# Altium integrated library TI Digital Signal Processor 32-Bit.IntLib: 121 symbols (part 6 of 13)
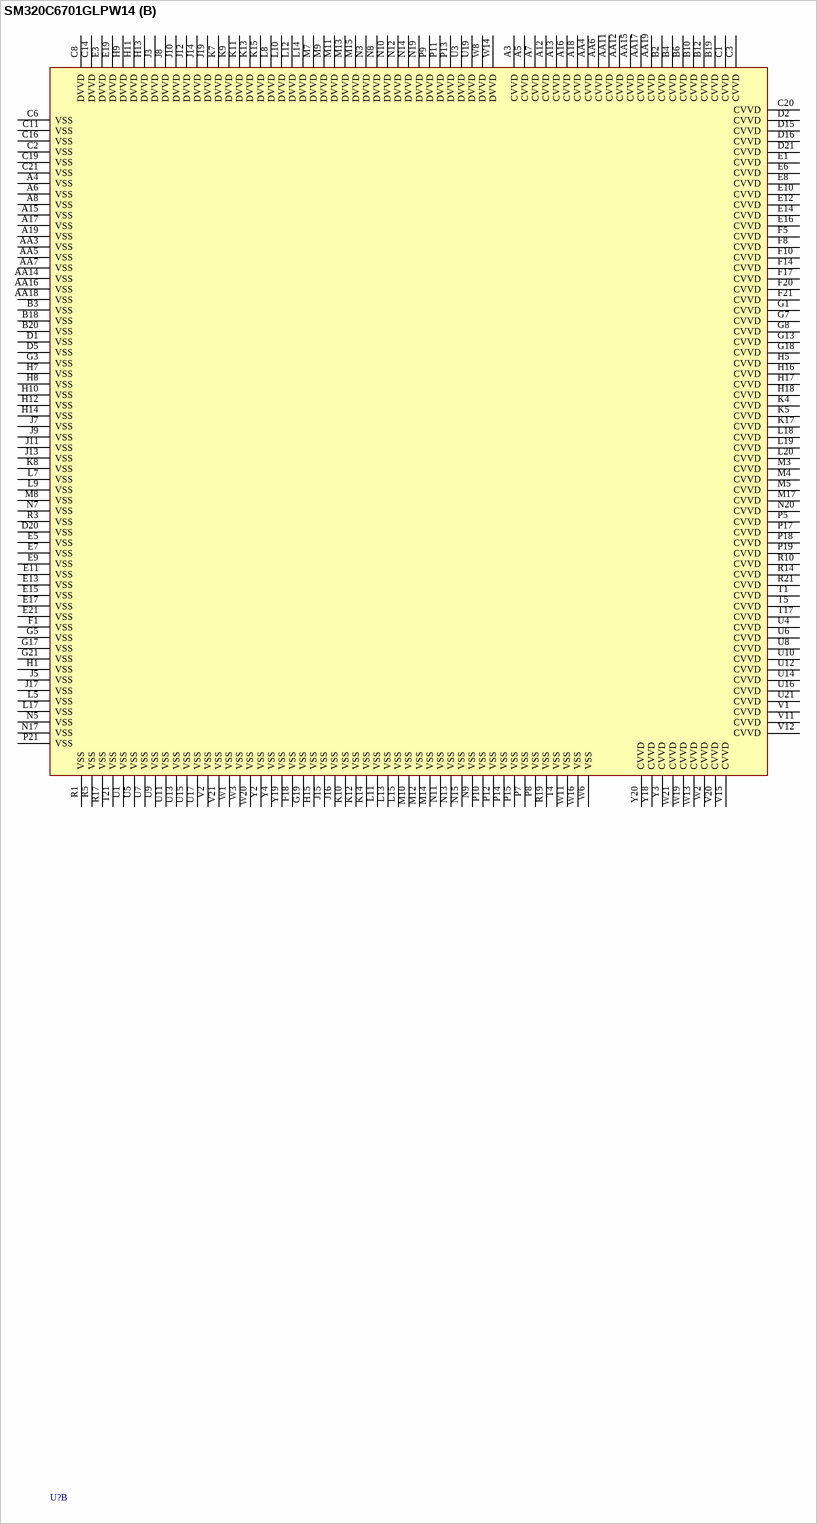
[diagram p135: symbol SM320C6701GLPW14]

## SM320C6701GLPW14
designator U?
Floating-Point, 1.9/3.3V DSP; Note: PLLV and PLLG are not part of external voltage supply or ground.; Published: 25-Jan-2001; LatestRevisionDate: 13-Apr-2006; LatestRevisionNote: IPC-7351 Footprint Added.; DatasheetVersion: Apr-2000; PackageVersion: Sep-1998; PackageReference: GLP429; Publisher: Altium Limited; PackageDescription: 429-Ball Ceramic Ball Grid Array 1.27 mm Pitch; ComponentLink1Description: Manufacturer Link; ComponentLink1URL: http://www.ti.com/; ComponentLink2Description: Datasheet; ComponentLink2URL: http://www-s.ti.com/sc/ds/smj320c6701.pdf
footprint GLP429 (BGA, 429-Leads, Body 27x27mm, Pitch 1.27mm)
3D model SM320C6701-GLP429 (429-Ball Ceramic Ball Grid Array 1.27 mm Pitch)
part A pins: A9 HD5 (io), A10 HD10 (io), A11 HD13 (io), A14 CLKIN (in), AA8 SSCLK (hiz), AA9 ED2 (io), AA10 ED6 (io), AA13 ED13 (io), B5 RSV8 (in), B7 HD1 (io), B8 HD4 (io), B9 HD8 (io), B11 HD14 (io), B13 RSV2 (in), B14 RSV3 (in), B15 ~{HOLDA} (out), B16 BOOTMODE4 (in), B17 CLKMODE1 (in), C4 ~{HDS}1 (in), C5 ~{HCS} (in), C7 HD0 (io), C9 HD6 (io), C10 HD9 (io), C12 PLLF, C13 PLLFREQ3 (in), C15 RSV5 (out), C17 CLKMODE0 (in), C18 BOOTMODE1 (in), D3 NC, D4 HR/~{W} (in), D6 NC, D7 RSV7 (in), D8 HD2 (io), D9 HD3 (io), D10 HD11 (io), D11 HD15 (io), D12 PLLV (power), D13 NC, D14 NC, D17 BOOTMODE0 (in), D18 NC, D19 PD (out), E2 DR1 (in), E4 HHWIL (in), E18 DMAC3 (out), E20 DMAC1 (out), F2 FSX1 (io), F3 FSR1 (io), F4 CLKS1 (in), F6 ~{HBE}0 (in), F7 RSV6 (in), F9 HD7 (io), F11 PLLFREQ1 (in), F12 NC, F13 RSV4 (in), F15 BOOTMODE2 (in), F16 RSV9 (out), F19 DMAC2 (out), G2 TOUT1 (hiz), G4 DX1 (hiz), G6 ~{HBE}1 (in), G9 HD12 (io), G10 PLLG (power), G11 PLLFREQ2 (in), G12 NC, G14 BOOTMODE3 (in), G15 NC, G16 DMAC0 (out), G20 LENDIAN (in), H2 ~{HINT} (hiz), H3 ~{HRDY} (out), H4 CLKR1 (io), H6 HCNTL0 (in), H19 NC, H20 NC, H21 NC, J1 EA18 (hiz), J2 EA19 (hiz), J4 CLKX1 (io), J6 HCNTL1 (in), J18 TINP0 (in), J20 ~{RESET} (in), J21 DR0 (in), K1 EA17 (hiz), K2 EA16 (hiz), K3 TINP1 (in), K6 ~{HDS}2 (in), K16 RSV1 (in), K18 CLKS0 (in), K19 TMS (in), K20 CLKX0 (io), K21 NMI (in), L1 EA14 (hiz), L2 EA15 (hiz), L3 EA20 (hiz), L4 EA21 (hiz), L6 ~{HAS} (in), L16 NC, L21 CLKR0 (io), M1 EA13 (hiz), M2 EA12 (hiz), M6 EA11 (hiz), M16 NC, M18 TOUT0 (hiz), M19 NC, M20 TCK (in), M21 DX0 (hiz), N1 EA9 (hiz), N2 EA8 (hiz), N4 EA10 (hiz), N6 EA7 (hiz), N16 FSX0 (io), N18 ~{TRST} (in), N21 RSV0 (in), P1 EA3 (hiz), P2 EA4 (hiz), P3 EA5 (hiz), P4 EA6 (hiz), P6 EA2 (hiz), P16 FSR0 (io), P20 EXT_INT6 (in), R2 ~{BE}0 (hiz), R4 ARDY (in), R6 ~{HOLD} (in), R7 ~{ARE} (hiz), R8 ~{BE}3 (hiz), R9 ED16 (io), R11 IACK (out), R12 TDO (hiz), R13 TDI (in), R15 EXT_INT5 (in), R16 EXT_INT7 (in), R18 EXT_INT4 (in), R20 EMU1 (io), T2 ~{BE}1 (hiz), T3 ~{BE}2 (hiz), T6 ~{CE}1 (hiz), T7 ~{AOE} (hiz), T8 ~{SDWE} (hiz), T9 SDCLK (hiz), T10 ED12 (io), T11 ED21 (io), T12 ED25 (io), T13 ED23 (io), T14 INUM1 (out), T15 ED29 (io), T16 INUM0 (out), T18 EMU0 (io), T19 INUM3 (out), T20 INUM2 (out), U2 ~{CE}0 (hiz), U18 ED31 (io), U20 ED30 (io), V3 ~{CE}2 (hiz), V4 NC, V5 ~{AWE} (hiz), V6 ~{SDRAS} (hiz), V7 SDA10 (hiz), V8 ~{SSADS} (hiz), V9 CLKOUT2 (out), V10 ED7 (io), V13 ED14 (io), V14 ED18 (io), V16 ED26 (io), V17 ED27 (io), V18 ED28 (io), V19 NC, W4 NC, W5 ~{SDCAS} (hiz), W7 ~{SSOE} (hiz), W9 ED0 (io), W10 ED4 (io), W12 ED10 (io), W15 ED19 (io), W17 ED24 (io), W18 NC, Y5 ~{CE}3 (hiz), Y6 CLKOUT1 (out), Y7 ~{SSWE} (hiz), Y8 ED1 (io), Y9 ED3 (io), Y10 ED5 (io), Y11 ED8 (io), Y12 ED9 (io), Y13 ED11 (io), Y14 ED15 (io), Y15 ED17 (io), Y16 ED20 (io), Y17 ED22 (io)
part B pins: A3 CVVD (power), A4 VSS (power), A5 CVVD (power), A6 VSS (power), A7 CVVD (power), A8 VSS (power), A12 CVVD (power), A13 CVVD (power), A15 VSS (power), A16 CVVD (power), A17 VSS (power), A18 CVVD (power), A19 VSS (power), AA3 VSS (power), AA4 CVVD (power), AA5 VSS (power), AA6 CVVD (power), AA7 VSS (power), AA11 CVVD (power), AA12 CVVD (power), AA14 VSS (power), AA15 CVVD (power), AA16 VSS (power), AA17 CVVD (power), AA18 VSS (power), AA19 CVVD (power), B2 CVVD (power), B3 VSS (power), B4 CVVD (power), B6 CVVD (power), B10 CVVD (power), B12 CVVD (power), B18 VSS (power), B19 CVVD (power), B20 VSS (power), C1 CVVD (power), C2 VSS (power), C3 CVVD (power), C6 VSS (power), C8 DVVD (power), C11 VSS (power), C14 DVVD (power), C16 VSS (power), C19 VSS (power), C20 CVVD (power), C21 VSS (power), D1 VSS (power), D2 CVVD (power), D5 VSS (power), D15 CVVD (power), D16 CVVD (power), D20 VSS (power), D21 CVVD (power), E1 CVVD (power), E3 DVVD (power), E5 VSS (power), E6 CVVD (power), E7 VSS (power), E8 CVVD (power), E9 VSS (power), E10 CVVD (power), E11 VSS (power), E12 CVVD (power), E13 VSS (power), E14 CVVD (power), E15 VSS (power), E16 CVVD (power), E17 VSS (power), E19 DVVD (power), E21 VSS (power), F1 VSS (power), F5 CVVD (power), F8 CVVD (power), F10 CVVD (power), F14 CVVD (power), F17 CVVD (power), F18 VSS (power), F20 CVVD (power), F21 CVVD (power), G1 CVVD (power), G3 VSS (power), G5 VSS (power), G7 CVVD (power), G8 CVVD (power), G13 CVVD (power), G17 VSS (power), G18 CVVD (power), G19 VSS (power), G21 VSS (power), H1 VSS (power), H5 CVVD (power), H7 VSS (power), H8 VSS (power), H9 DVVD (power), H10 VSS (power), H11 DVVD (power), H12 VSS (power), H13 DVVD (power), H14 VSS (power), H15 VSS (power), H16 CVVD (power), H17 CVVD (power), H18 CVVD (power), J3 DVVD (power), J5 VSS (power), J7 VSS (power), J8 DVVD (power), J9 VSS (power), J10 DVVD (power), J11 VSS (power), J12 DVVD (power), J13 VSS (power), J14 DVVD (power), J15 VSS (power), J16 VSS (power), J17 VSS (power), J19 DVVD (power), K4 CVVD (power), K5 CVVD (power), K7 DVVD (power), K8 VSS (power), K9 DVVD (power), K10 VSS (power), K11 DVVD (power), K12 VSS (power), K13 DVVD (power), K14 VSS (power), K15 DVVD (power), K17 CVVD (power), L5 VSS (power), L7 VSS (power), L8 DVVD (power), L9 VSS (power), L10 DVVD (power), L11 VSS (power), L12 DVVD (power), L13 VSS (power), L14 DVVD (power), L15 VSS (power), L17 VSS (power), L18 CVVD (power), L19 CVVD (power), L20 CVVD (power), M3 CVVD (power), M4 CVVD (power), M5 CVVD (power), M7 DVVD (power), M8 VSS (power), M9 DVVD (power), M10 VSS (power), M11 DVVD (power), M12 VSS (power), M13 DVVD (power), M14 VSS (power), M15 DVVD (power), M17 CVVD (power), N3 DVVD (power), N5 VSS (power), N7 VSS (power), N8 DVVD (power), N9 VSS (power), N10 DVVD (power), N11 VSS (power), N12 DVVD (power), N13 VSS (power), N14 DVVD (power), N15 VSS (power), N17 VSS (power), N19 DVVD (power), N20 CVVD (power), P5 CVVD (power), P7 VSS (power), P8 VSS (power), P9 DVVD (power), P10 VSS (power), P11 DVVD (power), P12 VSS (power), P13 DVVD (power), P14 VSS (power), P15 VSS (power), P17 CVVD (power), P18 CVVD (power), P19 CVVD (power), P21 VSS (power), R1 VSS (power), R3 VSS (power), R5 VSS (power), R10 CVVD (power), R14 CVVD (power), R17 VSS (power), R19 VSS (power), R21 CVVD (power), T1 CVVD (power), T4 VSS (power), T5 CVVD (power), T17 CVVD (power), T21 VSS (power), U1 VSS (power), U3 DVVD (power), U4 CVVD (power), U5 VSS (power), U6 CVVD (power), U7 VSS (power), U8 CVVD (power), U9 VSS (power), U10 CVVD (power), U11 VSS (power), U12 CVVD (power), U13 VSS (power), U14 CVVD (power), U15 VSS (power), U16 CVVD (power), U17 VSS (power), U19 DVVD (power), U21 CVVD (power), V1 CVVD (power), V2 VSS (power), V11 CVVD (power), V12 CVVD (power), V15 CVVD (power), V20 CVVD (power), V21 VSS (power), W1 VSS (power), W2 CVVD (power), W3 VSS (power), W6 VSS (power), W8 DVVD (power), W11 VSS (power), W13 CVVD (power), W14 DVVD (power), W16 VSS (power), W19 CVVD (power), W20 VSS (power), W21 CVVD (power), Y2 VSS (power), Y3 CVVD (power), Y4 VSS (power), Y18 CVVD (power), Y19 VSS (power), Y20 CVVD (power)

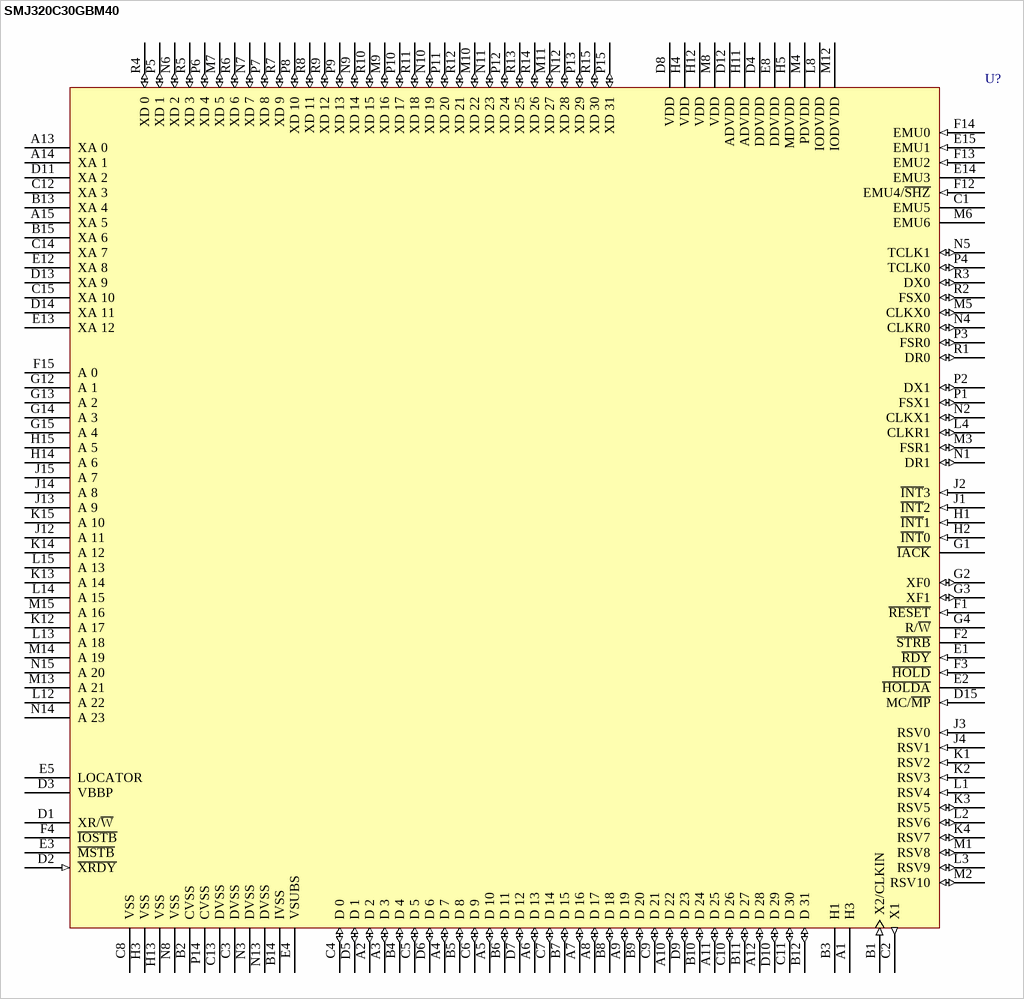
[diagram p61: symbol SMJ320C30GBM40]

## SMJ320C30GBM40
designator U?
Floating DSP; Published: 25-Jan-2001; LatestRevisionDate: 08-Jul-2005; LatestRevisionNote: Stylized 3D Model Added.; DatasheetVersion: Feb-1999; PackageVersion: Oct-1995; PackageReference: GB181; Publisher: Altium Limited; PackageDescription: 181-Pin Pin Grid Array 2.54 mm Pitch; ComponentLink1Description: Manufacturer Link; ComponentLink1URL: http://www.ti.com/; ComponentLink2Description: Datasheet; ComponentLink2URL: http://www-s.ti.com/sc/ds/smj320c30.pdf
footprint GB181 (PGA, 181-Leads, Body 39x39mm, Pitch 2.54mm)
3D model SMJ320C30-GB181 (181-Pin Pin Grid Array 2.54 mm Pitch)
pins: A1 H3 (hiz), A2 D 2 (io), A3 D 3 (io), A4 D 7 (io), A5 D 10 (io), A6 D 13 (io), A7 D 16 (io), A8 D 17 (io), A9 D 19 (io), A10 D 22 (io), A11 D 25 (io), A12 D 28 (io), A13 XA 0 (hiz), A14 XA 1 (hiz), A15 XA 5 (hiz), B1 X2/CLKIN (in), B2 CVSS (power), B3 H1 (hiz), B4 D 4 (io), B5 D 8 (io), B6 D 11 (io), B7 D 15 (io), B8 D 18 (io), B9 D 20 (io), B10 D 24 (io), B11 D 27 (io), B12 D 31 (io), B13 XA 4 (hiz), B14 IVSS (power), B15 XA 6 (hiz), C1 EMU5, C2 X1 (out), C3 DVSS (power), C4 D 0 (io), C5 D 5 (io), C6 D 9 (io), C7 D 14 (io), C8 VSS (power), C9 D 21 (io), C10 D 26 (io), C11 D 30 (io), C12 XA 3 (hiz), C13 DVSS (power), C14 XA 7 (hiz), C15 XA 10 (hiz), D1 XR/~{W} (hiz), D2 ~{XRDY} (in), D3 VBBP, D4 DDVDD (power), D5 D 1 (io), D6 D 6 (io), D7 D 12 (io), D8 VDD (power), D9 D 23 (io), D10 D 29 (io), D11 XA 2 (hiz), D12 ADVDD (power), D13 XA 9 (hiz), D14 XA 11 (hiz), D15 MC/~{MP} (in), E1 ~{RDY} (in), E2 ~{HOLDA} (hiz), E3 ~{MSTB} (hiz), E4 VSUBS (power), E5 LOCATOR, E8 DDVDD (power), E12 XA 8 (hiz), E13 XA 12 (hiz), E14 EMU3 (hiz), E15 EMU1 (in), F1 ~{RESET} (in), F2 ~{STRB} (hiz), F3 ~{HOLD} (in), F4 ~{IOSTB} (hiz), F12 EMU4/~{SHZ} (in), F13 EMU2 (in), F14 EMU0 (in), F15 A 0 (hiz), G1 ~{IACK} (hiz), G2 XF0 (io), G3 XF1 (io), G4 R/~{W} (hiz), G12 A 1 (hiz), G13 A 2 (hiz), G14 A 3 (hiz), G15 A 4 (hiz), H1 ~{INT}1 (in), H2 ~{INT}0 (in), H3 VSS (power), H4 VDD (power), H5 MDVDD (power), H11 ADVDD (power), H12 VDD (power), H13 VSS (power), H14 A 6 (hiz), H15 A 5 (hiz), J1 ~{INT}2 (in), J2 ~{INT}3 (in), J3 RSV0 (in), J4 RSV1 (in), J12 A 11 (hiz), J13 A 9 (hiz), J14 A 8 (hiz), J15 A 7 (hiz), K1 RSV2 (in), K2 RSV3 (in), K3 RSV5 (io), K4 RSV7 (io), K12 A 17 (hiz), K13 A 14 (hiz), K14 A 12 (hiz), K15 A 10 (hiz), L1 RSV4 (in), L2 RSV6 (io), L3 RSV9 (io), L4 CLKR1 (io), L8 IODVDD (power), L12 A 22 (hiz), L13 A 18 (hiz), L14 A 15 (hiz), L15 A 13 (hiz), M1 RSV8 (io), M2 RSV10 (io), M3 FSR1 (io), M4 PDVDD (power), M5 CLKX0 (io), M6 EMU6, M7 XD 5 (io), M8 VDD (power), M9 XD 16 (io), M10 XD 22 (io), M11 XD 27 (io), M12 IODVDD (power), M13 A 21 (hiz), M14 A 19 (hiz), M15 A 16 (hiz), N1 DR1 (io), N2 CLKX1 (io), N3 DVSS (power), N4 CLKR0 (io), N5 TCLK1 (io), N6 XD 2 (io), N7 XD 7 (io), N8 VSS (power), N9 XD 14 (io), N10 XD 19 (io), N11 XD 23 (io), N12 XD 28 (io), N13 DVSS (power), N14 A 23 (hiz), N15 A 20 (hiz), P1 FSX1 (io), P2 DX1 (io), P3 FSR0 (io), P4 TCLK0 (io), P5 XD 1 (io), P6 XD 4 (io), P7 XD 8 (io), P8 XD 10 (io), P9 XD 13 (io), P10 XD 17 (io), P11 XD 20 (io), P12 XD 24 (io), P13 XD 29 (io), P14 CVSS (power), P15 XD 31 (io), R1 DR0 (io), R2 FSX0 (io), R3 DX0 (io), R4 XD 0 (io), R5 XD 3 (io), R6 XD 6 (io), R7 XD 9 (io), R8 XD 11 (io), R9 XD 12 (io), R10 XD 15 (io), R11 XD 18 (io), R12 XD 21 (io), R13 XD 25 (io), R14 XD 26 (io), R15 XD 30 (io)

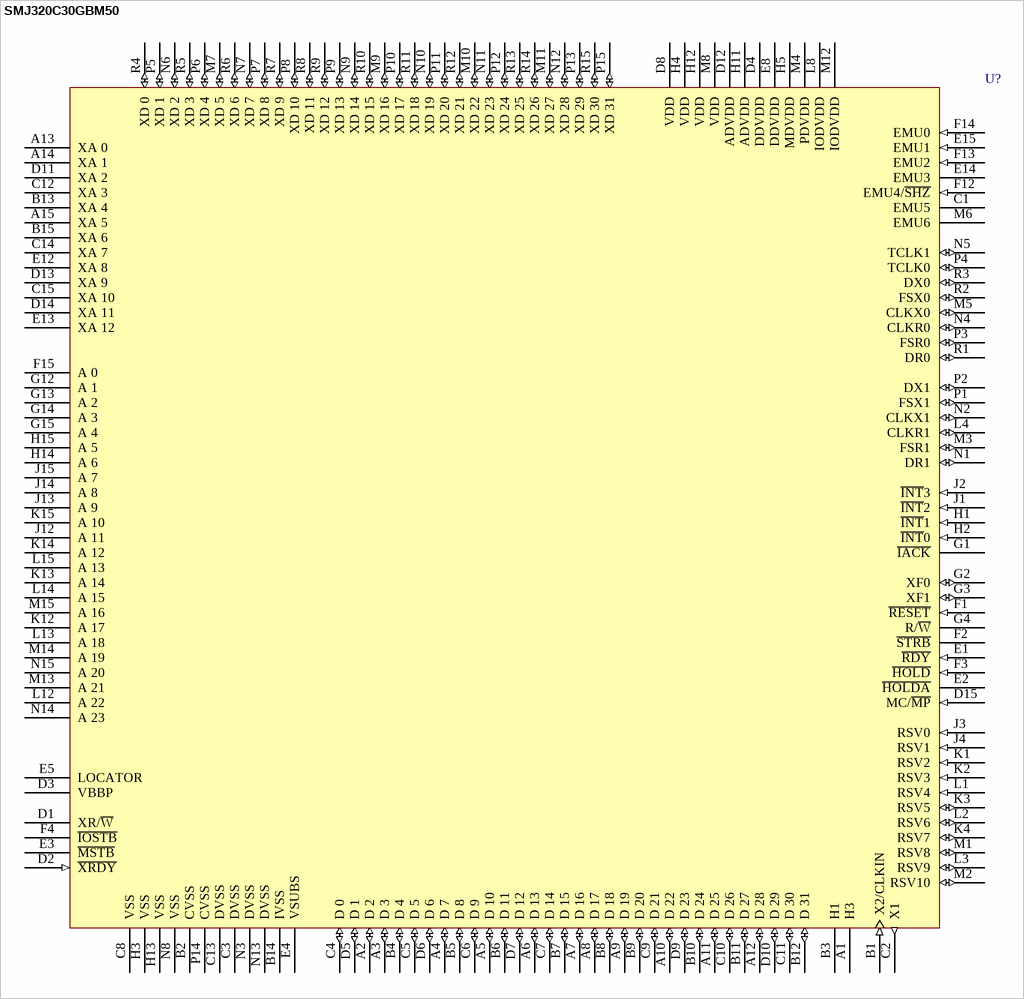
[diagram p62: symbol SMJ320C30GBM50]

## SMJ320C30GBM50
designator U?
Floating DSP; Published: 25-Jan-2001; LatestRevisionDate: 08-Jul-2005; LatestRevisionNote: Stylized 3D Model Added.; DatasheetVersion: Feb-1999; PackageVersion: Oct-1995; PackageReference: GB181; Publisher: Altium Limited; PackageDescription: 181-Pin Pin Grid Array 2.54 mm Pitch; ComponentLink1Description: Manufacturer Link; ComponentLink1URL: http://www.ti.com/; ComponentLink2Description: Datasheet; ComponentLink2URL: http://www-s.ti.com/sc/ds/smj320c30.pdf
footprint GB181 (PGA, 181-Leads, Body 39x39mm, Pitch 2.54mm)
3D model SMJ320C30-GB181 (181-Pin Pin Grid Array 2.54 mm Pitch)
pins: A1 H3 (hiz), A2 D 2 (io), A3 D 3 (io), A4 D 7 (io), A5 D 10 (io), A6 D 13 (io), A7 D 16 (io), A8 D 17 (io), A9 D 19 (io), A10 D 22 (io), A11 D 25 (io), A12 D 28 (io), A13 XA 0 (hiz), A14 XA 1 (hiz), A15 XA 5 (hiz), B1 X2/CLKIN (in), B2 CVSS (power), B3 H1 (hiz), B4 D 4 (io), B5 D 8 (io), B6 D 11 (io), B7 D 15 (io), B8 D 18 (io), B9 D 20 (io), B10 D 24 (io), B11 D 27 (io), B12 D 31 (io), B13 XA 4 (hiz), B14 IVSS (power), B15 XA 6 (hiz), C1 EMU5, C2 X1 (out), C3 DVSS (power), C4 D 0 (io), C5 D 5 (io), C6 D 9 (io), C7 D 14 (io), C8 VSS (power), C9 D 21 (io), C10 D 26 (io), C11 D 30 (io), C12 XA 3 (hiz), C13 DVSS (power), C14 XA 7 (hiz), C15 XA 10 (hiz), D1 XR/~{W} (hiz), D2 ~{XRDY} (in), D3 VBBP, D4 DDVDD (power), D5 D 1 (io), D6 D 6 (io), D7 D 12 (io), D8 VDD (power), D9 D 23 (io), D10 D 29 (io), D11 XA 2 (hiz), D12 ADVDD (power), D13 XA 9 (hiz), D14 XA 11 (hiz), D15 MC/~{MP} (in), E1 ~{RDY} (in), E2 ~{HOLDA} (hiz), E3 ~{MSTB} (hiz), E4 VSUBS (power), E5 LOCATOR, E8 DDVDD (power), E12 XA 8 (hiz), E13 XA 12 (hiz), E14 EMU3 (hiz), E15 EMU1 (in), F1 ~{RESET} (in), F2 ~{STRB} (hiz), F3 ~{HOLD} (in), F4 ~{IOSTB} (hiz), F12 EMU4/~{SHZ} (in), F13 EMU2 (in), F14 EMU0 (in), F15 A 0 (hiz), G1 ~{IACK} (hiz), G2 XF0 (io), G3 XF1 (io), G4 R/~{W} (hiz), G12 A 1 (hiz), G13 A 2 (hiz), G14 A 3 (hiz), G15 A 4 (hiz), H1 ~{INT}1 (in), H2 ~{INT}0 (in), H3 VSS (power), H4 VDD (power), H5 MDVDD (power), H11 ADVDD (power), H12 VDD (power), H13 VSS (power), H14 A 6 (hiz), H15 A 5 (hiz), J1 ~{INT}2 (in), J2 ~{INT}3 (in), J3 RSV0 (in), J4 RSV1 (in), J12 A 11 (hiz), J13 A 9 (hiz), J14 A 8 (hiz), J15 A 7 (hiz), K1 RSV2 (in), K2 RSV3 (in), K3 RSV5 (io), K4 RSV7 (io), K12 A 17 (hiz), K13 A 14 (hiz), K14 A 12 (hiz), K15 A 10 (hiz), L1 RSV4 (in), L2 RSV6 (io), L3 RSV9 (io), L4 CLKR1 (io), L8 IODVDD (power), L12 A 22 (hiz), L13 A 18 (hiz), L14 A 15 (hiz), L15 A 13 (hiz), M1 RSV8 (io), M2 RSV10 (io), M3 FSR1 (io), M4 PDVDD (power), M5 CLKX0 (io), M6 EMU6, M7 XD 5 (io), M8 VDD (power), M9 XD 16 (io), M10 XD 22 (io), M11 XD 27 (io), M12 IODVDD (power), M13 A 21 (hiz), M14 A 19 (hiz), M15 A 16 (hiz), N1 DR1 (io), N2 CLKX1 (io), N3 DVSS (power), N4 CLKR0 (io), N5 TCLK1 (io), N6 XD 2 (io), N7 XD 7 (io), N8 VSS (power), N9 XD 14 (io), N10 XD 19 (io), N11 XD 23 (io), N12 XD 28 (io), N13 DVSS (power), N14 A 23 (hiz), N15 A 20 (hiz), P1 FSX1 (io), P2 DX1 (io), P3 FSR0 (io), P4 TCLK0 (io), P5 XD 1 (io), P6 XD 4 (io), P7 XD 8 (io), P8 XD 10 (io), P9 XD 13 (io), P10 XD 17 (io), P11 XD 20 (io), P12 XD 24 (io), P13 XD 29 (io), P14 CVSS (power), P15 XD 31 (io), R1 DR0 (io), R2 FSX0 (io), R3 DX0 (io), R4 XD 0 (io), R5 XD 3 (io), R6 XD 6 (io), R7 XD 9 (io), R8 XD 11 (io), R9 XD 12 (io), R10 XD 15 (io), R11 XD 18 (io), R12 XD 21 (io), R13 XD 25 (io), R14 XD 26 (io), R15 XD 30 (io)

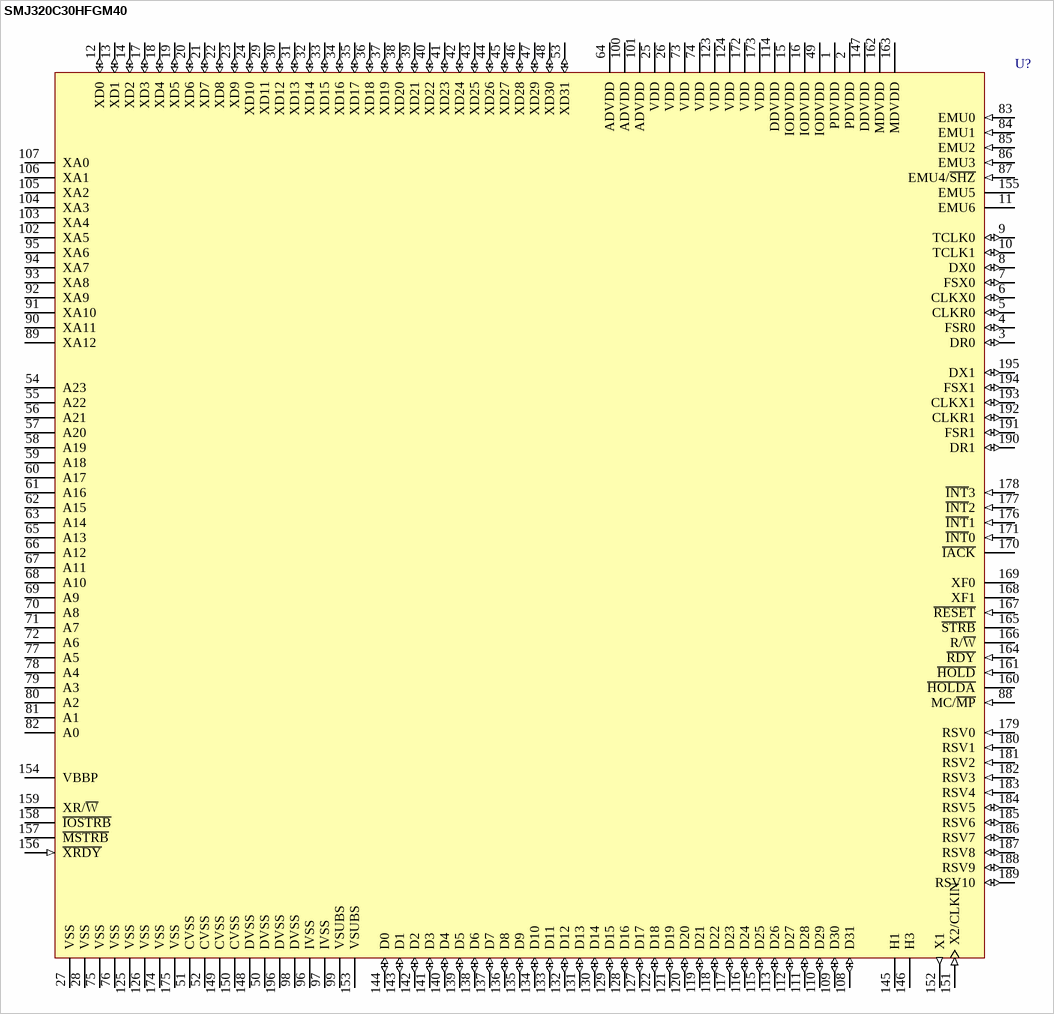
[diagram p63: symbol SMJ320C30HFGM40]

## SMJ320C30HFGM40
designator U?
Floating DSP; Published: 25-Jan-2001; LatestRevisionDate: 13-Apr-2006; LatestRevisionNote: IPC-7351 Footprint Added.; DatasheetVersion: Feb-1999; PackageVersion: Jun-1999; PackageReference: HFG196; Publisher: Altium Limited; PackageDescription: 196-Pin Ceramic Quad Flat Pack 0.635 mm Pitch; ComponentLink1Description: Manufacturer Link; ComponentLink1URL: http://www.ti.com/; ComponentLink2Description: Datasheet; ComponentLink2URL: http://www-s.ti.com/sc/ds/smj320c30.pdf
footprint HFG196_N (CQFP, 196-Leads, Body 34x34mm; Pitch 0.635mm, Gullwing Leadform, IPC Medium Density)
footprint HFG196_L (CQFP, 196-Leads, Body 34x34mm; Pitch 0.635mm, Gullwing Leadform, IPC High Density)
footprint HFG196_M (CQFP, 196-Leads, Body 34x34mm; Pitch 0.635mm, Gullwing Leadform, IPC Low Density)
3D model SMJ320C30-HFG196 (196-Pin Ceramic Quad Flat Pack 0.635 mm Pitch)
pins: 1 PDVDD (power), 2 PDVDD (power), 3 DR0 (io), 4 FSR0 (io), 5 CLKR0 (io), 6 CLKX0 (io), 7 FSX0 (io), 8 DX0 (io), 9 TCLK0 (io), 10 TCLK1 (io), 11 EMU6, 12 XD0 (io), 13 XD1 (io), 14 XD2 (io), 15 IODVDD (power), 16 IODVDD (power), 17 XD3 (io), 18 XD4 (io), 19 XD5 (io), 20 XD6 (io), 21 XD7 (io), 22 XD8 (io), 23 XD9 (io), 24 XD10 (io), 25 VDD (power), 26 VDD (power), 27 VSS (power), 28 VSS (power), 29 XD11 (io), 30 XD12 (io), 31 XD13 (io), 32 XD14 (io), 33 XD15 (io), 34 XD16 (io), 35 XD17 (io), 36 XD18 (io), 37 XD19 (io), 38 XD20 (io), 39 XD21 (io), 40 XD22 (io), 41 XD23 (io), 42 XD24 (io), 43 XD25 (io), 44 XD26 (io), 45 XD27 (io), 46 XD28 (io), 47 XD29 (io), 48 XD30 (io), 49 IODVDD (power), 50 DVSS (power), 51 CVSS (power), 52 CVSS (power), 53 XD31 (io), 54 A23 (hiz), 55 A22 (hiz), 56 A21 (hiz), 57 A20 (hiz), 58 A19 (hiz), 59 A18 (hiz), 60 A17 (hiz), 61 A16 (hiz), 62 A15 (hiz), 63 A14 (hiz), 64 ADVDD (power), 65 A13 (hiz), 66 A12 (hiz), 67 A11 (hiz), 68 A10 (hiz), 69 A9 (hiz), 70 A8 (hiz), 71 A7 (hiz), 72 A6 (hiz), 73 VDD (power), 74 VDD (power), 75 VSS (power), 76 VSS (power), 77 A5 (hiz), 78 A4 (hiz), 79 A3 (hiz), 80 A2 (hiz), 81 A1 (hiz), 82 A0 (hiz), 83 EMU0 (in), 84 EMU1 (in), 85 EMU2 (in), 86 EMU3 (in), 87 EMU4/~{SHZ} (in), 88 MC/~{MP} (in), 89 XA12 (hiz), 90 XA11 (hiz), 91 XA10 (hiz), 92 XA9 (hiz), 93 XA8 (hiz), 94 XA7 (hiz), 95 XA6 (hiz), 96 IVSS (power), 97 IVSS (power), 98 DVSS (power), 99 VSUBS (power), 100 ADVDD (power), 101 ADVDD (power), 102 XA5 (hiz), 103 XA4 (hiz), 104 XA3 (hiz), 105 XA2 (hiz), 106 XA1 (hiz), 107 XA0 (hiz), 108 D31 (io), 109 D30 (io), 110 D29 (io), 111 D28 (io), 112 D27 (io), 113 D26 (io), 114 DDVDD (power), 115 D25 (io), 116 D24 (io), 117 D23 (io), 118 D22 (io), 119 D21 (io), 120 D20 (io), 121 D19 (io), 122 D18 (io), 123 VDD (power), 124 VDD (power), 125 VSS (power), 126 VSS (power), 127 D17 (io), 128 D16 (io), 129 D15 (io), 130 D14 (io), 131 D13 (io), 132 D12 (io), 133 D11 (io), 134 D10 (io), 135 D9 (io), 136 D8 (io), 137 D7 (io), 138 D6 (io), 139 D5 (io), 140 D4 (io), 141 D3 (io), 142 D2 (io), 143 D1 (io), 144 D0 (io), 145 H1 (hiz), 146 H3 (hiz), 147 DDVDD (power), 148 DVSS (power), 149 CVSS (power), 150 CVSS (power), 151 X2/CLKIN (in), 152 X1 (out), 153 VSUBS (power), 154 VBBP, 155 EMU5, 156 ~{XRDY} (in), 157 ~{MSTRB} (hiz), 158 ~{IOSTRB} (hiz), 159 XR/~{W} (hiz), 160 ~{HOLDA} (hiz), 161 ~{HOLD} (in), 162 MDVDD (power), 163 MDVDD (power), 164 ~{RDY} (in), 165 ~{STRB} (hiz), 166 R/~{W} (hiz), 167 ~{RESET} (in), 168 XF1 (hiz), 169 XF0 (hiz), 170 ~{IACK} (hiz), 171 ~{INT}0 (in), 172 VDD (power), 173 VDD (power), 174 VSS (power), 175 VSS (power), 176 ~{INT}1 (in), 177 ~{INT}2 (in), 178 ~{INT}3 (in), 179 RSV0 (in), 180 RSV1 (in), 181 RSV2 (in), 182 RSV3 (in), 183 RSV4 (in), 184 RSV5 (io), 185 RSV6 (io), 186 RSV7 (io), 187 RSV8 (io), 188 RSV9 (io), 189 RSV10 (io), 190 DR1 (io), 191 FSR1 (io), 192 CLKR1 (io), 193 CLKX1 (io), 194 FSX1 (io), 195 DX1 (io), 196 DVSS (power)

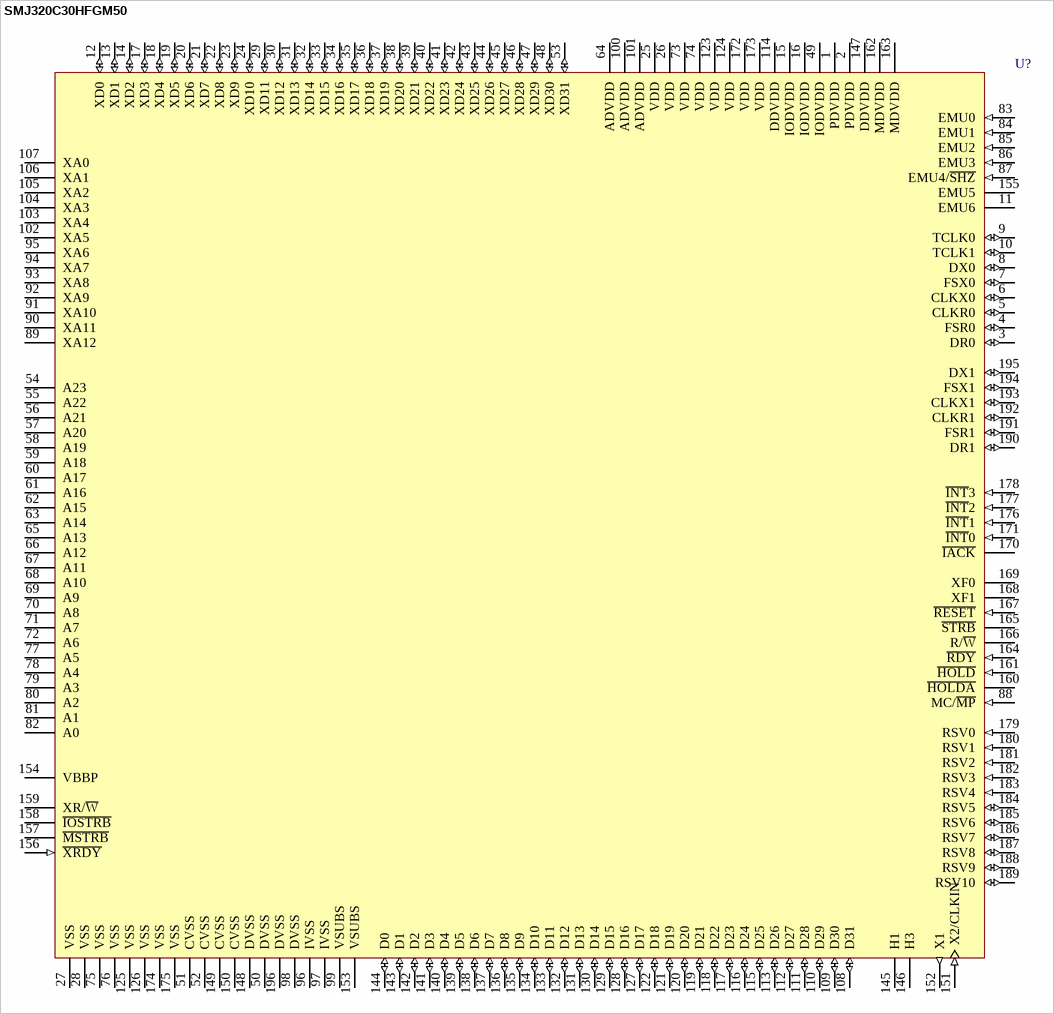
[diagram p64: symbol SMJ320C30HFGM50]

## SMJ320C30HFGM50
designator U?
Floating DSP; Published: 25-Jan-2001; LatestRevisionDate: 13-Apr-2006; LatestRevisionNote: IPC-7351 Footprint Added.; DatasheetVersion: Feb-1999; PackageVersion: Jun-1999; PackageReference: HFG196; Publisher: Altium Limited; PackageDescription: 196-Pin Ceramic Quad Flat Pack 0.635 mm Pitch; ComponentLink1Description: Manufacturer Link; ComponentLink1URL: http://www.ti.com/; ComponentLink2Description: Datasheet; ComponentLink2URL: http://www-s.ti.com/sc/ds/smj320c30.pdf
footprint HFG196_N (CQFP, 196-Leads, Body 34x34mm; Pitch 0.635mm, Gullwing Leadform, IPC Medium Density)
footprint HFG196_L (CQFP, 196-Leads, Body 34x34mm; Pitch 0.635mm, Gullwing Leadform, IPC High Density)
footprint HFG196_M (CQFP, 196-Leads, Body 34x34mm; Pitch 0.635mm, Gullwing Leadform, IPC Low Density)
3D model SMJ320C30-HFG196 (196-Pin Ceramic Quad Flat Pack 0.635 mm Pitch)
pins: 1 PDVDD (power), 2 PDVDD (power), 3 DR0 (io), 4 FSR0 (io), 5 CLKR0 (io), 6 CLKX0 (io), 7 FSX0 (io), 8 DX0 (io), 9 TCLK0 (io), 10 TCLK1 (io), 11 EMU6, 12 XD0 (io), 13 XD1 (io), 14 XD2 (io), 15 IODVDD (power), 16 IODVDD (power), 17 XD3 (io), 18 XD4 (io), 19 XD5 (io), 20 XD6 (io), 21 XD7 (io), 22 XD8 (io), 23 XD9 (io), 24 XD10 (io), 25 VDD (power), 26 VDD (power), 27 VSS (power), 28 VSS (power), 29 XD11 (io), 30 XD12 (io), 31 XD13 (io), 32 XD14 (io), 33 XD15 (io), 34 XD16 (io), 35 XD17 (io), 36 XD18 (io), 37 XD19 (io), 38 XD20 (io), 39 XD21 (io), 40 XD22 (io), 41 XD23 (io), 42 XD24 (io), 43 XD25 (io), 44 XD26 (io), 45 XD27 (io), 46 XD28 (io), 47 XD29 (io), 48 XD30 (io), 49 IODVDD (power), 50 DVSS (power), 51 CVSS (power), 52 CVSS (power), 53 XD31 (io), 54 A23 (hiz), 55 A22 (hiz), 56 A21 (hiz), 57 A20 (hiz), 58 A19 (hiz), 59 A18 (hiz), 60 A17 (hiz), 61 A16 (hiz), 62 A15 (hiz), 63 A14 (hiz), 64 ADVDD (power), 65 A13 (hiz), 66 A12 (hiz), 67 A11 (hiz), 68 A10 (hiz), 69 A9 (hiz), 70 A8 (hiz), 71 A7 (hiz), 72 A6 (hiz), 73 VDD (power), 74 VDD (power), 75 VSS (power), 76 VSS (power), 77 A5 (hiz), 78 A4 (hiz), 79 A3 (hiz), 80 A2 (hiz), 81 A1 (hiz), 82 A0 (hiz), 83 EMU0 (in), 84 EMU1 (in), 85 EMU2 (in), 86 EMU3 (in), 87 EMU4/~{SHZ} (in), 88 MC/~{MP} (in), 89 XA12 (hiz), 90 XA11 (hiz), 91 XA10 (hiz), 92 XA9 (hiz), 93 XA8 (hiz), 94 XA7 (hiz), 95 XA6 (hiz), 96 IVSS (power), 97 IVSS (power), 98 DVSS (power), 99 VSUBS (power), 100 ADVDD (power), 101 ADVDD (power), 102 XA5 (hiz), 103 XA4 (hiz), 104 XA3 (hiz), 105 XA2 (hiz), 106 XA1 (hiz), 107 XA0 (hiz), 108 D31 (io), 109 D30 (io), 110 D29 (io), 111 D28 (io), 112 D27 (io), 113 D26 (io), 114 DDVDD (power), 115 D25 (io), 116 D24 (io), 117 D23 (io), 118 D22 (io), 119 D21 (io), 120 D20 (io), 121 D19 (io), 122 D18 (io), 123 VDD (power), 124 VDD (power), 125 VSS (power), 126 VSS (power), 127 D17 (io), 128 D16 (io), 129 D15 (io), 130 D14 (io), 131 D13 (io), 132 D12 (io), 133 D11 (io), 134 D10 (io), 135 D9 (io), 136 D8 (io), 137 D7 (io), 138 D6 (io), 139 D5 (io), 140 D4 (io), 141 D3 (io), 142 D2 (io), 143 D1 (io), 144 D0 (io), 145 H1 (hiz), 146 H3 (hiz), 147 DDVDD (power), 148 DVSS (power), 149 CVSS (power), 150 CVSS (power), 151 X2/CLKIN (in), 152 X1 (out), 153 VSUBS (power), 154 VBBP, 155 EMU5, 156 ~{XRDY} (in), 157 ~{MSTRB} (hiz), 158 ~{IOSTRB} (hiz), 159 XR/~{W} (hiz), 160 ~{HOLDA} (hiz), 161 ~{HOLD} (in), 162 MDVDD (power), 163 MDVDD (power), 164 ~{RDY} (in), 165 ~{STRB} (hiz), 166 R/~{W} (hiz), 167 ~{RESET} (in), 168 XF1 (hiz), 169 XF0 (hiz), 170 ~{IACK} (hiz), 171 ~{INT}0 (in), 172 VDD (power), 173 VDD (power), 174 VSS (power), 175 VSS (power), 176 ~{INT}1 (in), 177 ~{INT}2 (in), 178 ~{INT}3 (in), 179 RSV0 (in), 180 RSV1 (in), 181 RSV2 (in), 182 RSV3 (in), 183 RSV4 (in), 184 RSV5 (io), 185 RSV6 (io), 186 RSV7 (io), 187 RSV8 (io), 188 RSV9 (io), 189 RSV10 (io), 190 DR1 (io), 191 FSR1 (io), 192 CLKR1 (io), 193 CLKX1 (io), 194 FSX1 (io), 195 DX1 (io), 196 DVSS (power)

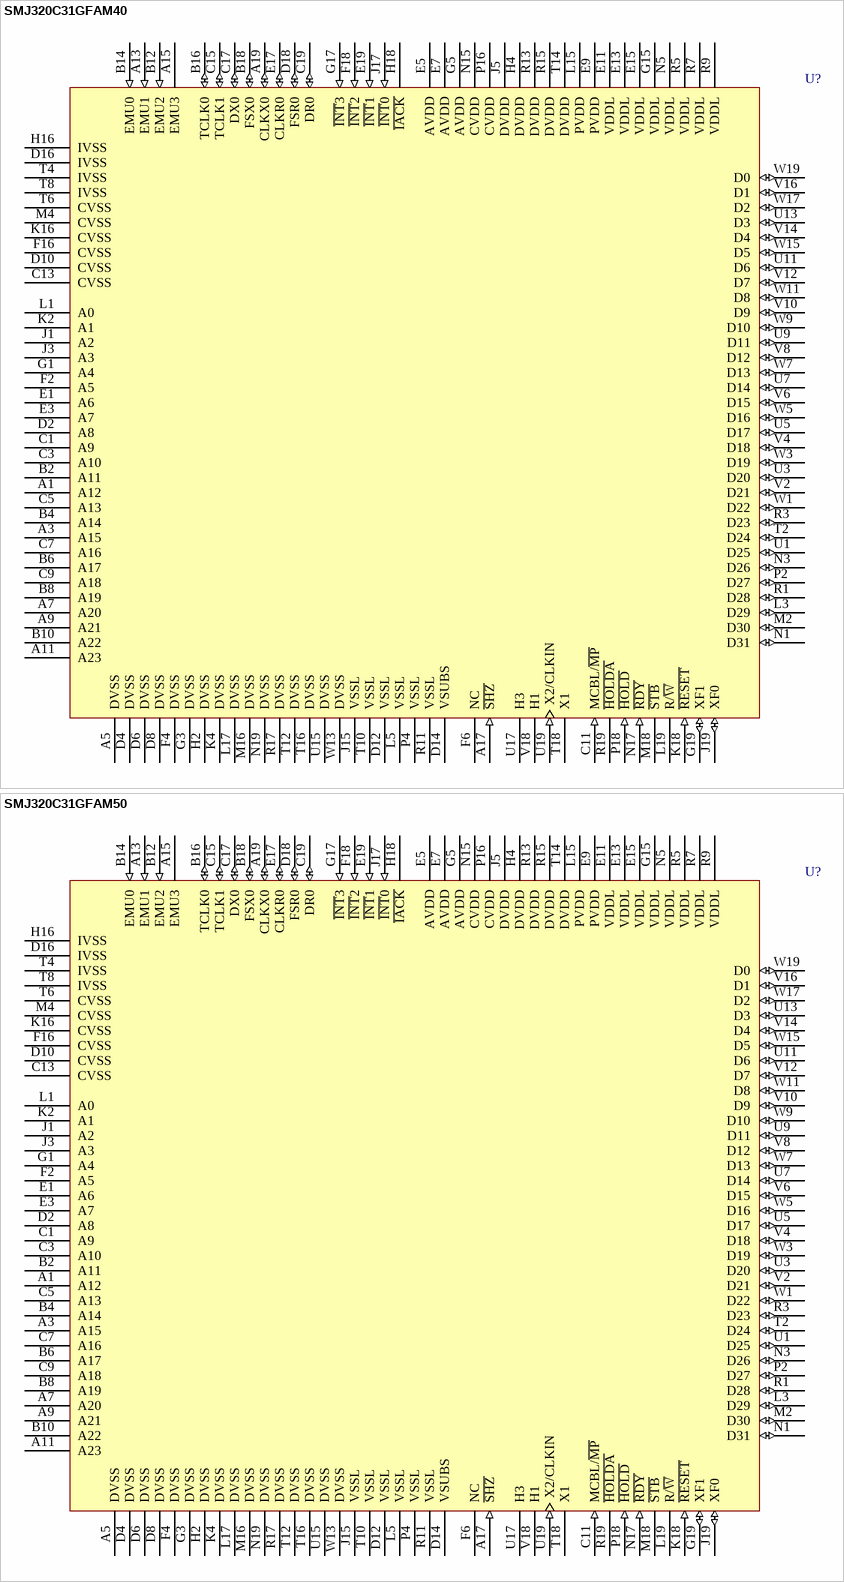
[diagram p65: symbols SMJ320C31GFAM40 to SMJ320C31GFAM50]

## SMJ320C31GFAM40
designator U?
Floating DSP; Published: 25-Jan-2001; LatestRevisionDate: 08-Jul-2005; LatestRevisionNote: Stylized 3D Model Added.; DatasheetVersion: Jun-2000; PackageVersion: Feb-1996; PackageReference: GFA141; Publisher: Altium Limited; PackageDescription: 141-Pin Pin Grid Array 2.54 mm Pitch; ComponentLink1Description: Manufacturer Link; ComponentLink1URL: http://www.ti.com/; ComponentLink2Description: Datasheet; ComponentLink2URL: http://www-s.ti.com/sc/ds/sm320c31.pdf
footprint GFA141 (PGA, 141-Leads, Body 27x27mm, Pitch 2.54mm)
3D model SMJ320C31-GFA141 (141-Pin Pin Grid Array 2.54 mm Pitch)
pins: A1 A12 (hiz), A3 A15 (hiz), A5 DVSS (power), A7 A20 (hiz), A9 A21 (hiz), A11 A23 (hiz), A13 EMU1 (in), A15 EMU3 (hiz), A17 ~{SHZ} (in), A19 CLKX0 (io), B2 A11 (hiz), B4 A14 (hiz), B6 A17 (hiz), B8 A19 (hiz), B10 A22 (hiz), B12 EMU2 (in), B14 EMU0 (in), B16 TCLK0 (io), B18 FSX0 (io), C1 A9 (hiz), C3 A10 (hiz), C5 A13 (hiz), C7 A16 (hiz), C9 A18 (hiz), C11 MCBL/~{MP} (in), C13 CVSS (power), C15 TCLK1 (io), C17 DX0 (io), C19 DR0 (io), D2 A8 (hiz), D4 DVSS (power), D6 DVSS (power), D8 DVSS (power), D10 CVSS (power), D12 VSSL (power), D14 VSUBS (power), D16 IVSS (power), D18 FSR0 (io), E1 A6 (hiz), E3 A7 (hiz), E5 AVDD (power), E7 AVDD (power), E9 PVDD (power), E11 VDDL (power), E13 VDDL (power), E15 VDDL (power), E17 CLKR0 (io), E19 ~{INT}1 (in), F2 A5 (hiz), F4 DVSS (power), F6 NC, F16 CVSS (power), F18 ~{INT}2 (in), G1 A4 (hiz), G3 DVSS (power), G5 AVDD (power), G15 VDDL (power), G17 ~{INT}3 (in), G19 XF1 (io), H2 DVSS (power), H4 DVDD (power), H16 IVSS (power), H18 ~{IACK} (hiz), J1 A2 (hiz), J3 A3 (hiz), J5 DVDD (power), J15 VSSL (power), J17 ~{INT}0 (in), J19 XF0 (io), K2 A1 (hiz), K4 DVSS (power), K16 CVSS (power), K18 ~{RESET} (in), L1 A0 (hiz), L3 D29 (io), L5 VSSL (power), L15 PVDD (power), L17 DVSS (power), L19 R/~{W} (hiz), M2 D30 (io), M4 CVSS (power), M16 DVSS (power), M18 ~{STB} (hiz), N1 D31 (io), N3 D26 (io), N5 VDDL (power), N15 CVDD (power), N17 ~{RDY} (in), N19 DVSS (power), P2 D27 (io), P4 VSSL (power), P16 CVDD (power), P18 ~{HOLD} (in), R1 D28 (io), R3 D23 (io), R5 VDDL (power), R7 VDDL (power), R9 VDDL (power), R11 VSSL (power), R13 DVDD (power), R15 DVDD (power), R17 DVSS (power), R19 ~{HOLDA} (hiz), T2 D24 (io), T4 IVSS (power), T6 CVSS (power), T8 IVSS (power), T10 VSSL (power), T12 DVSS (power), T14 DVDD (power), T16 DVSS (power), T18 X1 (hiz), U1 D25 (io), U3 D20 (io), U5 D17 (io), U7 D14 (io), U9 D11 (io), U11 D6 (io), U13 D3 (io), U15 DVSS (power), U17 H3 (hiz), U19 X2/CLKIN (in), V2 D21 (io), V4 D18 (io), V6 D15 (io), V8 D12 (io), V10 D9 (io), V12 D7 (io), V14 D4 (io), V16 D1 (io), V18 H1 (hiz), W1 D22 (io), W3 D19 (io), W5 D16 (io), W7 D13 (io), W9 D10 (io), W11 D8 (io), W13 DVSS (power), W15 D5 (io), W17 D2 (io), W19 D0 (io)

## SMJ320C31GFAM50
designator U?
Floating DSP; Published: 25-Jan-2001; LatestRevisionDate: 08-Jul-2005; LatestRevisionNote: Stylized 3D Model Added.; DatasheetVersion: Jun-2000; PackageVersion: Feb-1996; PackageReference: GFA141; Publisher: Altium Limited; PackageDescription: 141-Pin Pin Grid Array 2.54 mm Pitch; ComponentLink1Description: Manufacturer Link; ComponentLink1URL: http://www.ti.com/; ComponentLink2Description: Datasheet; ComponentLink2URL: http://www-s.ti.com/sc/ds/sm320c31.pdf
footprint GFA141 (PGA, 141-Leads, Body 27x27mm, Pitch 2.54mm)
3D model SMJ320C31-GFA141 (141-Pin Pin Grid Array 2.54 mm Pitch)
pins: A1 A12 (hiz), A3 A15 (hiz), A5 DVSS (power), A7 A20 (hiz), A9 A21 (hiz), A11 A23 (hiz), A13 EMU1 (in), A15 EMU3 (hiz), A17 ~{SHZ} (in), A19 CLKX0 (io), B2 A11 (hiz), B4 A14 (hiz), B6 A17 (hiz), B8 A19 (hiz), B10 A22 (hiz), B12 EMU2 (in), B14 EMU0 (in), B16 TCLK0 (io), B18 FSX0 (io), C1 A9 (hiz), C3 A10 (hiz), C5 A13 (hiz), C7 A16 (hiz), C9 A18 (hiz), C11 MCBL/~{MP} (in), C13 CVSS (power), C15 TCLK1 (io), C17 DX0 (io), C19 DR0 (io), D2 A8 (hiz), D4 DVSS (power), D6 DVSS (power), D8 DVSS (power), D10 CVSS (power), D12 VSSL (power), D14 VSUBS (power), D16 IVSS (power), D18 FSR0 (io), E1 A6 (hiz), E3 A7 (hiz), E5 AVDD (power), E7 AVDD (power), E9 PVDD (power), E11 VDDL (power), E13 VDDL (power), E15 VDDL (power), E17 CLKR0 (io), E19 ~{INT}1 (in), F2 A5 (hiz), F4 DVSS (power), F6 NC, F16 CVSS (power), F18 ~{INT}2 (in), G1 A4 (hiz), G3 DVSS (power), G5 AVDD (power), G15 VDDL (power), G17 ~{INT}3 (in), G19 XF1 (io), H2 DVSS (power), H4 DVDD (power), H16 IVSS (power), H18 ~{IACK} (hiz), J1 A2 (hiz), J3 A3 (hiz), J5 DVDD (power), J15 VSSL (power), J17 ~{INT}0 (in), J19 XF0 (io), K2 A1 (hiz), K4 DVSS (power), K16 CVSS (power), K18 ~{RESET} (in), L1 A0 (hiz), L3 D29 (io), L5 VSSL (power), L15 PVDD (power), L17 DVSS (power), L19 R/~{W} (hiz), M2 D30 (io), M4 CVSS (power), M16 DVSS (power), M18 ~{STB} (hiz), N1 D31 (io), N3 D26 (io), N5 VDDL (power), N15 CVDD (power), N17 ~{RDY} (in), N19 DVSS (power), P2 D27 (io), P4 VSSL (power), P16 CVDD (power), P18 ~{HOLD} (in), R1 D28 (io), R3 D23 (io), R5 VDDL (power), R7 VDDL (power), R9 VDDL (power), R11 VSSL (power), R13 DVDD (power), R15 DVDD (power), R17 DVSS (power), R19 ~{HOLDA} (hiz), T2 D24 (io), T4 IVSS (power), T6 CVSS (power), T8 IVSS (power), T10 VSSL (power), T12 DVSS (power), T14 DVDD (power), T16 DVSS (power), T18 X1 (hiz), U1 D25 (io), U3 D20 (io), U5 D17 (io), U7 D14 (io), U9 D11 (io), U11 D6 (io), U13 D3 (io), U15 DVSS (power), U17 H3 (hiz), U19 X2/CLKIN (in), V2 D21 (io), V4 D18 (io), V6 D15 (io), V8 D12 (io), V10 D9 (io), V12 D7 (io), V14 D4 (io), V16 D1 (io), V18 H1 (hiz), W1 D22 (io), W3 D19 (io), W5 D16 (io), W7 D13 (io), W9 D10 (io), W11 D8 (io), W13 DVSS (power), W15 D5 (io), W17 D2 (io), W19 D0 (io)

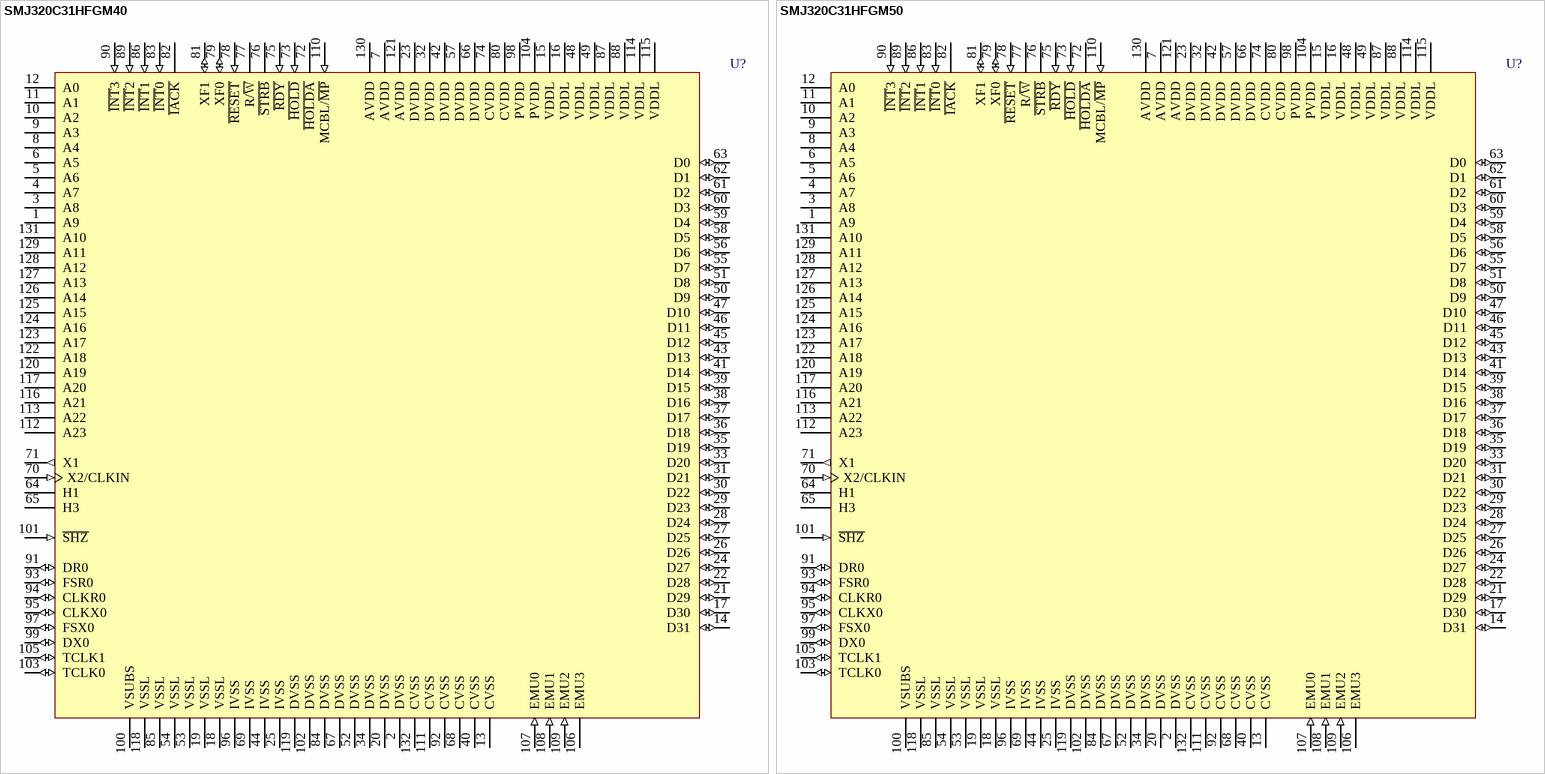
[diagram p66: symbols SMJ320C31HFGM40 to SMJ320C31HFGM50]

## SMJ320C31HFGM40
designator U?
Floating DSP; Published: 25-Jan-2001; LatestRevisionDate: 13-Apr-2006; LatestRevisionNote: IPC-7351 Footprint Added.; DatasheetVersion: Jun-2000; PackageVersion: Jun-1999; PackageReference: HFG132; Publisher: Altium Limited; PackageDescription: 132-Pin Ceramic Quad Flat Pack 0.635 mm Pitch; ComponentLink1Description: Manufacturer Link; ComponentLink1URL: http://www.ti.com/; ComponentLink2Description: Datasheet; ComponentLink2URL: http://www-s.ti.com/sc/ds/sm320c31.pdf
footprint HFG132_N (CQFP, 132-Leads, Body 24x24mm; Pitch 0.635mm, Gullwing Leadform, IPC Medium Density)
footprint HFG132_L (CQFP, 132-Leads, Body 24x24mm; Pitch 0.635mm, Gullwing Leadform, IPC High Density)
footprint HFG132_M (CQFP, 132-Leads, Body 24x24mm; Pitch 0.635mm, Gullwing Leadform, IPC Low Density)
3D model SMJ320C31-HFG132 (132-Pin Ceramic Quad Flat Pack 0.635 mm Pitch)
pins: 1 A9 (hiz), 2 DVSS (power), 3 A8 (hiz), 4 A7 (hiz), 5 A6 (hiz), 6 A5 (hiz), 7 AVDD (power), 8 A4 (hiz), 9 A3 (hiz), 10 A2 (hiz), 11 A1 (hiz), 12 A0 (hiz), 13 CVSS (power), 14 D31 (io), 15 VDDL (power), 16 VDDL (power), 17 D30 (io), 18 VSSL (power), 19 VSSL (power), 20 DVSS (power), 21 D29 (io), 22 D28 (io), 23 DVDD (power), 24 D27 (io), 25 IVSS (power), 26 D26 (io), 27 D25 (io), 28 D24 (io), 29 D23 (io), 30 D22 (io), 31 D21 (io), 32 DVDD (power), 33 D20 (io), 34 DVSS (power), 35 D19 (io), 36 D18 (io), 37 D17 (io), 38 D16 (io), 39 D15 (io), 40 CVSS (power), 41 D14 (io), 42 DVDD (power), 43 D13 (io), 44 IVSS (power), 45 D12 (io), 46 D11 (io), 47 D10 (io), 48 VDDL (power), 49 VDDL (power), 50 D9 (io), 51 D8 (io), 52 DVSS (power), 53 VSSL (power), 54 VSSL (power), 55 D7 (io), 56 D6 (io), 57 DVDD (power), 58 D5 (io), 59 D4 (io), 60 D3 (io), 61 D2 (io), 62 D1 (io), 63 D0 (io), 64 H1 (hiz), 65 H3 (hiz), 66 DVDD (power), 67 DVSS (power), 68 CVSS (power), 69 IVSS (power), 70 X2/CLKIN (in), 71 X1 (out), 72 ~{HOLDA} (hiz), 73 ~{HOLD} (in), 74 CVDD (power), 75 ~{RDY} (in), 76 ~{STRB} (hiz), 77 R/~{W} (hiz), 78 ~{RESET} (in), 79 XF0 (io), 80 CVDD (power), 81 XF1 (io), 82 ~{IACK} (hiz), 83 ~{INT}0 (in), 84 DVSS (power), 85 VSSL (power), 86 ~{INT}1 (in), 87 VDDL (power), 88 VDDL (power), 89 ~{INT}2 (in), 90 ~{INT}3 (in), 91 DR0 (io), 92 CVSS (power), 93 FSR0 (io), 94 CLKR0 (io), 95 CLKX0 (io), 96 IVSS (power), 97 FSX0 (io), 98 PVDD (power), 99 DX0 (io), 100 VSUBS (power), 101 ~{SHZ} (in), 102 DVSS (power), 103 TCLK0 (io), 104 PVDD (power), 105 TCLK1 (io), 106 EMU3 (hiz), 107 EMU0 (in), 108 EMU1 (in), 109 EMU2 (in), 110 MCBL/~{MP} (in), 111 CVSS (power), 112 A23 (hiz), 113 A22 (hiz), 114 VDDL (power), 115 VDDL (power), 116 A21 (hiz), 117 A20 (hiz), 118 VSSL (power), 119 DVSS (power), 120 A19 (hiz), 121 AVDD (power), 122 A18 (hiz), 123 A17 (hiz), 124 A16 (hiz), 125 A15 (hiz), 126 A14 (hiz), 127 A13 (hiz), 128 A12 (hiz), 129 A11 (hiz), 130 AVDD (power), 131 A10 (hiz), 132 CVSS (power)

## SMJ320C31HFGM50
designator U?
Floating DSP; Published: 25-Jan-2001; LatestRevisionDate: 13-Apr-2006; LatestRevisionNote: IPC-7351 Footprint Added.; DatasheetVersion: Jun-2000; PackageVersion: Jun-1999; PackageReference: HFG132; Publisher: Altium Limited; PackageDescription: 132-Pin Ceramic Quad Flat Pack 0.635 mm Pitch; ComponentLink1Description: Manufacturer Link; ComponentLink1URL: http://www.ti.com/; ComponentLink2Description: Datasheet; ComponentLink2URL: http://www-s.ti.com/sc/ds/sm320c31.pdf
footprint HFG132_N (CQFP, 132-Leads, Body 24x24mm; Pitch 0.635mm, Gullwing Leadform, IPC Medium Density)
footprint HFG132_L (CQFP, 132-Leads, Body 24x24mm; Pitch 0.635mm, Gullwing Leadform, IPC High Density)
footprint HFG132_M (CQFP, 132-Leads, Body 24x24mm; Pitch 0.635mm, Gullwing Leadform, IPC Low Density)
3D model SMJ320C31-HFG132 (132-Pin Ceramic Quad Flat Pack 0.635 mm Pitch)
pins: 1 A9 (hiz), 2 DVSS (power), 3 A8 (hiz), 4 A7 (hiz), 5 A6 (hiz), 6 A5 (hiz), 7 AVDD (power), 8 A4 (hiz), 9 A3 (hiz), 10 A2 (hiz), 11 A1 (hiz), 12 A0 (hiz), 13 CVSS (power), 14 D31 (io), 15 VDDL (power), 16 VDDL (power), 17 D30 (io), 18 VSSL (power), 19 VSSL (power), 20 DVSS (power), 21 D29 (io), 22 D28 (io), 23 DVDD (power), 24 D27 (io), 25 IVSS (power), 26 D26 (io), 27 D25 (io), 28 D24 (io), 29 D23 (io), 30 D22 (io), 31 D21 (io), 32 DVDD (power), 33 D20 (io), 34 DVSS (power), 35 D19 (io), 36 D18 (io), 37 D17 (io), 38 D16 (io), 39 D15 (io), 40 CVSS (power), 41 D14 (io), 42 DVDD (power), 43 D13 (io), 44 IVSS (power), 45 D12 (io), 46 D11 (io), 47 D10 (io), 48 VDDL (power), 49 VDDL (power), 50 D9 (io), 51 D8 (io), 52 DVSS (power), 53 VSSL (power), 54 VSSL (power), 55 D7 (io), 56 D6 (io), 57 DVDD (power), 58 D5 (io), 59 D4 (io), 60 D3 (io), 61 D2 (io), 62 D1 (io), 63 D0 (io), 64 H1 (hiz), 65 H3 (hiz), 66 DVDD (power), 67 DVSS (power), 68 CVSS (power), 69 IVSS (power), 70 X2/CLKIN (in), 71 X1 (out), 72 ~{HOLDA} (hiz), 73 ~{HOLD} (in), 74 CVDD (power), 75 ~{RDY} (in), 76 ~{STRB} (hiz), 77 R/~{W} (hiz), 78 ~{RESET} (in), 79 XF0 (io), 80 CVDD (power), 81 XF1 (io), 82 ~{IACK} (hiz), 83 ~{INT}0 (in), 84 DVSS (power), 85 VSSL (power), 86 ~{INT}1 (in), 87 VDDL (power), 88 VDDL (power), 89 ~{INT}2 (in), 90 ~{INT}3 (in), 91 DR0 (io), 92 CVSS (power), 93 FSR0 (io), 94 CLKR0 (io), 95 CLKX0 (io), 96 IVSS (power), 97 FSX0 (io), 98 PVDD (power), 99 DX0 (io), 100 VSUBS (power), 101 ~{SHZ} (in), 102 DVSS (power), 103 TCLK0 (io), 104 PVDD (power), 105 TCLK1 (io), 106 EMU3 (hiz), 107 EMU0 (in), 108 EMU1 (in), 109 EMU2 (in), 110 MCBL/~{MP} (in), 111 CVSS (power), 112 A23 (hiz), 113 A22 (hiz), 114 VDDL (power), 115 VDDL (power), 116 A21 (hiz), 117 A20 (hiz), 118 VSSL (power), 119 DVSS (power), 120 A19 (hiz), 121 AVDD (power), 122 A18 (hiz), 123 A17 (hiz), 124 A16 (hiz), 125 A15 (hiz), 126 A14 (hiz), 127 A13 (hiz), 128 A12 (hiz), 129 A11 (hiz), 130 AVDD (power), 131 A10 (hiz), 132 CVSS (power)

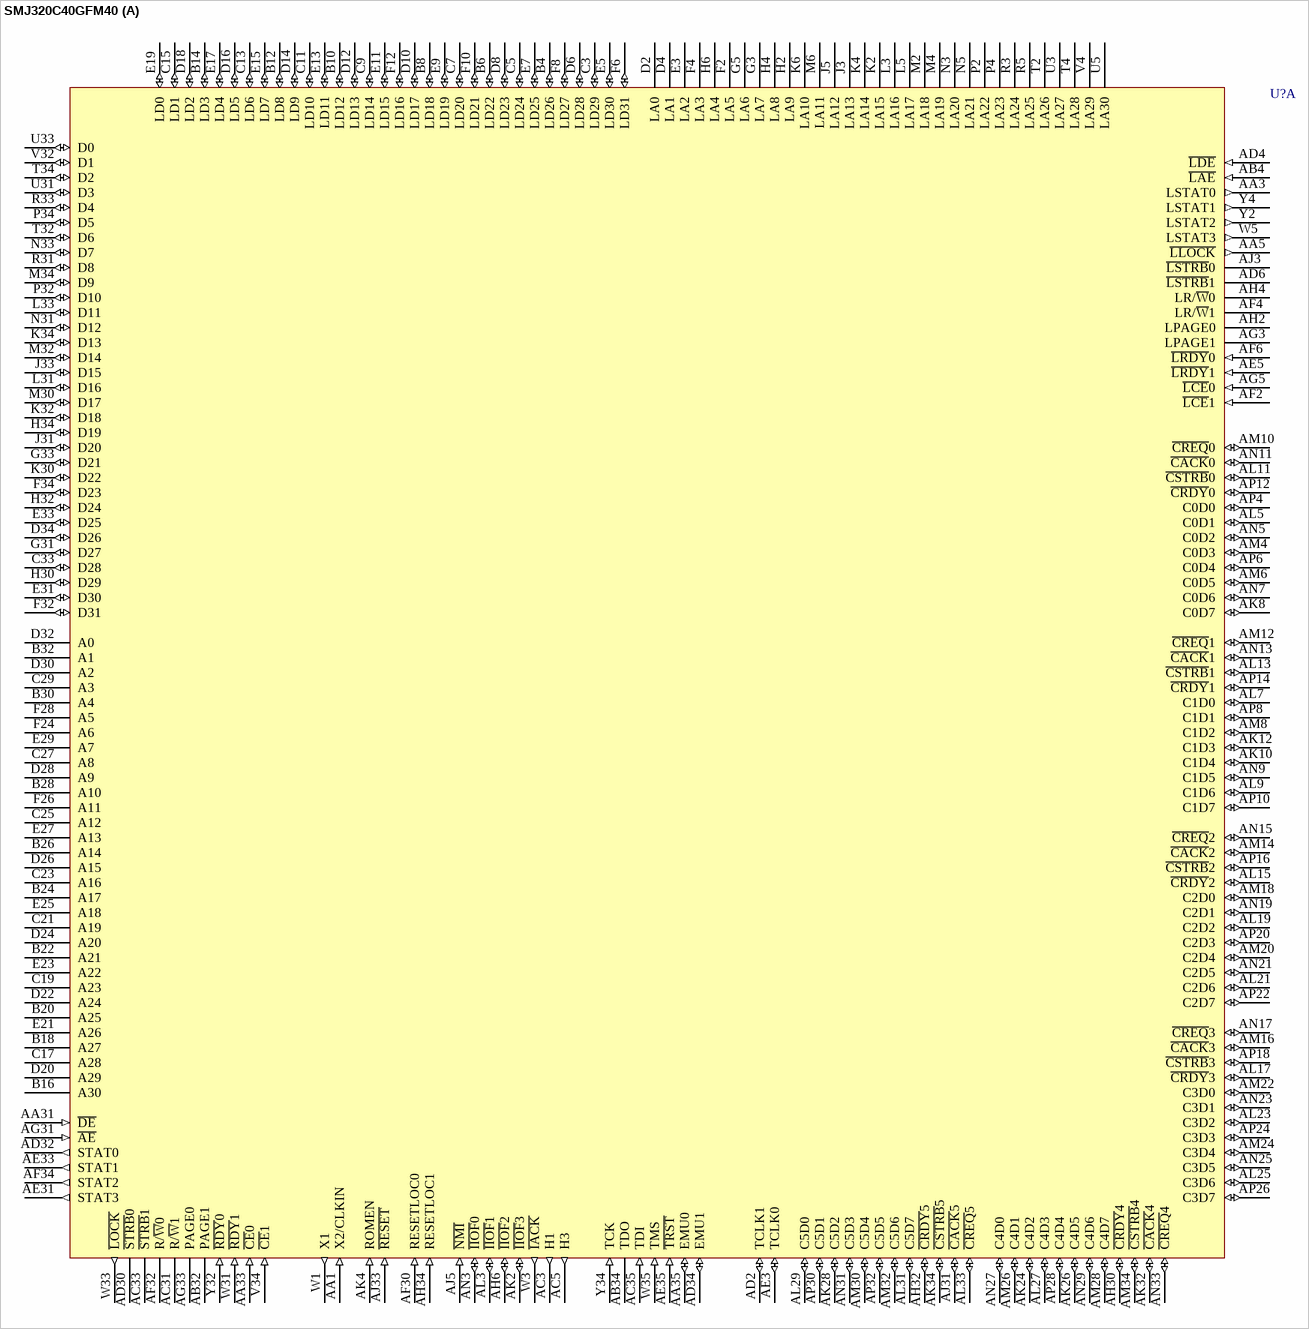
[diagram p67: symbol SMJ320C40GFM40]

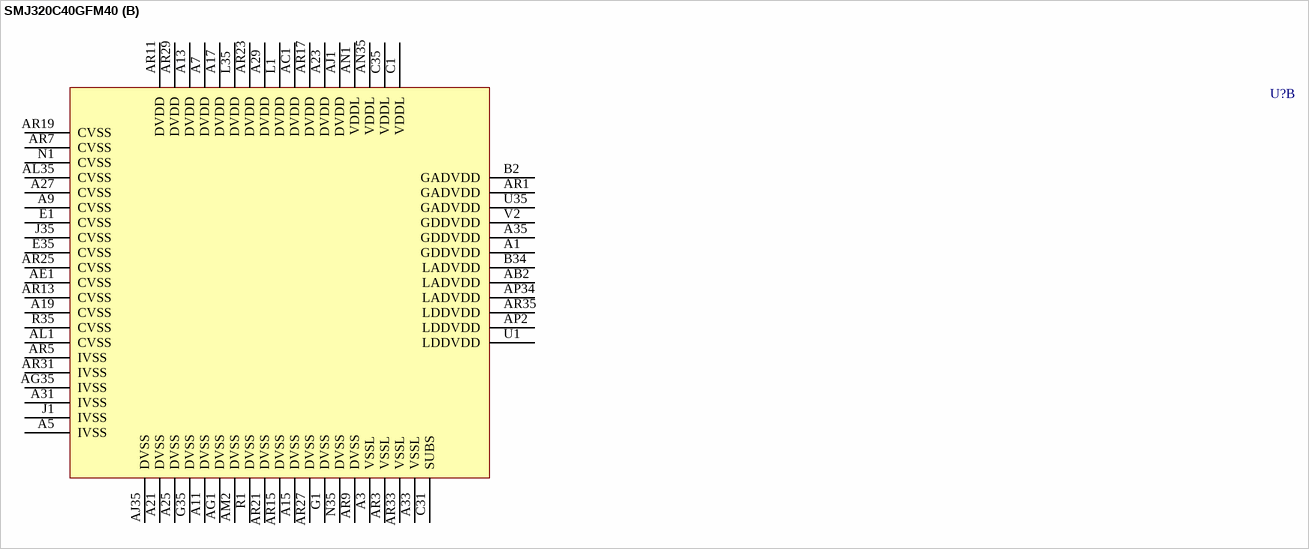
[diagram p68: symbol SMJ320C40GFM40]

## SMJ320C40GFM40
designator U?
Floating DSP; Published: 25-Jan-2001; LatestRevisionDate: 08-Jul-2005; LatestRevisionNote: Stylized 3D Model Added.; DatasheetVersion: Jun-2000; PackageVersion: Jun-1997; PackageReference: GF325; Publisher: Altium Limited; PackageDescription: 325-Pin Pin Grid Array 2.54 mm Pitch; ComponentLink1Description: Manufacturer Link; ComponentLink1URL: http://www.ti.com/; ComponentLink2Description: Datasheet; ComponentLink2URL: http://www-s.ti.com/sc/ds/sm320c40.pdf
footprint GF325 (PGA, 325-Leads, Body 47x47mm, Pitch 2.54mm)
3D model SMJ320C40-GF325 (325-Pin Pin Grid Array 2.54 mm Pitch)
part A pins: AA1 X2/CLKIN (in), AA3 LSTAT0 (out), AA5 ~{LLOCK} (out), AA31 ~{DE} (in), AA33 ~{CE}0 (in), AA35 EMU0 (io), AB4 ~{LAE} (in), AB32 PAGE1 (hiz), AB34 TDO (hiz), AC3 H1 (out), AC5 H3 (out), AC31 R/~{W}1 (hiz), AC33 ~{STRB}1 (hiz), AC35 TDI (in), AD2 TCLK1 (io), AD4 ~{LDE} (in), AD6 ~{LSTRB}1 (hiz), AD30 ~{STRB}0 (hiz), AD32 STAT0 (out), AD34 EMU1 (io), AE3 TCLK0 (io), AE5 ~{LRDY}1 (in), AE31 STAT3 (out), AE33 STAT1 (out), AE35 ~{TRST} (in), AF2 ~{LCE}1 (in), AF4 LR/~{W}1 (hiz), AF6 ~{LRDY}0 (in), AF30 RESETLOC0 (in), AF32 R/~{W}0 (hiz), AF34 STAT2 (out), AG3 LPAGE1 (hiz), AG5 ~{LCE}0 (in), AG31 ~{AE} (in), AG33 PAGE0 (hiz), AH2 LPAGE0 (hiz), AH4 LR/~{W}0 (hiz), AH6 ~{IIOF}2 (io), AH30 ~{CRDY}4 (io), AH32 ~{CRDY}5 (io), AH34 RESETLOC1 (in), AJ3 ~{LSTRB}0 (hiz), AJ5 ~{NMI} (in), AJ31 ~{CACK}5 (io), AJ33 ~{RESET} (in), AK2 ~{IIOF}3 (io), AK4 ROMEN (in), AK8 C0D7 (io), AK10 C1D4 (io), AK12 C1D3 (io), AK24 C4D2 (io), AK26 C4D5 (io), AK28 C5D2 (io), AK32 ~{CACK}4 (io), AK34 ~{CSTRB}5 (io), AL3 ~{IIOF}1 (io), AL5 C0D1 (io), AL7 C1D0 (io), AL9 C1D6 (io), AL11 ~{CSTRB}0 (io), AL13 ~{CSTRB}1 (io), AL15 ~{CRDY}2 (io), AL17 ~{CRDY}3 (io), AL19 C2D2 (io), AL21 C2D6 (io), AL23 C3D2 (io), AL25 C3D6 (io), AL27 C4D3 (io), AL29 C5D0 (io), AL31 C5D7 (io), AL33 ~{CREQ}5 (io), AM4 C0D3 (io), AM6 C0D5 (io), AM8 C1D2 (io), AM10 ~{CREQ}0 (io), AM12 ~{CREQ}1 (io), AM14 ~{CACK}2 (io), AM16 ~{CACK}3 (io), AM18 C2D0 (io), AM20 C2D4 (io), AM22 C3D0 (io), AM24 C3D4 (io), AM26 C4D1 (io), AM28 C4D7 (io), AM30 C5D4 (io), AM32 C5D6 (io), AM34 ~{CSTRB}4 (io), AN3 ~{IIOF}0 (io), AN5 C0D2 (io), AN7 C0D6 (io), AN9 C1D5 (io), AN11 ~{CACK}0 (io), AN13 ~{CACK}1 (io), AN15 ~{CREQ}2 (io), AN17 ~{CREQ}3 (io), AN19 C2D1 (io), AN21 C2D5 (io), AN23 C3D1 (io), AN25 C3D5 (io), AN27 C4D0 (io), AN29 C4D6 (io), AN31 C5D3 (io), AN33 ~{CREQ}4 (io), AP4 C0D0 (io), AP6 C0D4 (io), AP8 C1D1 (io), AP10 C1D7 (io), AP12 ~{CRDY}0 (io), AP14 ~{CRDY}1 (io), AP16 ~{CSTRB}2 (io), AP18 ~{CSTRB}3 (io), AP20 C2D3 (io), AP22 C2D7 (io), AP24 C3D3 (io), AP26 C3D7 (io), AP28 C4D4 (io), AP30 C5D1 (io), AP32 C5D5 (io), B4 LD26 (io), B6 LD22 (io), B8 LD18 (io), B10 LD12 (io), B12 LD8 (io), B14 LD3 (io), B16 A30 (hiz), B18 A27 (hiz), B20 A25 (hiz), B22 A21 (hiz), B24 A17 (hiz), B26 A14 (hiz), B28 A10 (hiz), B30 A4 (hiz), B32 A1 (hiz), C3 LD29 (io), C5 LD24 (io), C7 LD20 (io), C9 LD14 (io), C11 LD10 (io), C13 LD6 (io), C15 LD1 (io), C17 A28 (hiz), C19 A23 (hiz), C21 A19 (hiz), C23 A16 (hiz), C25 A12 (hiz), C27 A8 (hiz), C29 A3 (hiz), C33 D28 (io), D2 LA0 (hiz), D4 LA1 (hiz), D6 LD28 (io), D8 LD23 (io), D10 LD17 (io), D12 LD13 (io), D14 LD9 (io), D16 LD5 (io), D18 LD2 (io), D20 A29 (hiz), D22 A24 (hiz), D24 A20 (hiz), D26 A15 (hiz), D28 A9 (hiz), D30 A2 (hiz), D32 A0 (hiz), D34 D26 (io), E3 LA2 (hiz), E5 LD30 (io), E7 LD25 (io), E9 LD19 (io), E11 LD15 (io), E13 LD11 (io), E15 LD7 (io), E17 LD4 (io), E19 LD0 (io), E21 A26 (hiz), E23 A22 (hiz), E25 A18 (hiz), E27 A13 (hiz), E29 A7 (hiz), E31 D30 (io), E33 D25 (io), F2 LA5 (hiz), F4 LA3 (hiz), F6 LD31 (io), F8 LD27 (io), F10 LD21 (io), F12 LD16 (io), F24 A6 (hiz), F26 A11 (hiz), F28 A5 (hiz), F32 D31 (io), F34 D23 (io), G3 LA7 (hiz), G5 LA6 (hiz), G31 D27 (io), G33 D21 (io), H2 LA9 (hiz), H4 LA8 (hiz), H6 LA4 (hiz), H30 D29 (io), H32 D24 (io), H34 D19 (io), J3 LA13 (hiz), J5 LA12 (hiz), J31 D20 (io), J33 D15 (io), K2 LA15 (hiz), K4 LA14 (hiz), K6 LA10 (hiz), K30 D22 (io), K32 D18 (io), K34 D13 (io), L3 LA16 (hiz), L5 LA17 (hiz), L31 D16 (io), L33 D11 (io), M2 LA18 (hiz), M4 LA19 (hiz), M6 LA11 (hiz), M30 D17 (io), M32 D14 (io), M34 D9 (io), N3 LA20 (hiz), N5 LA21 (hiz), N31 D12 (io), N33 D7 (io), P2 LA22 (hiz), P4 LA23 (hiz), P32 D10 (io), P34 D5 (io), R3 LA24 (hiz), R5 LA25 (hiz), R31 D8 (io), R33 D4 (io), T2 LA26 (hiz), T4 LA28 (hiz), T32 D6 (io), T34 D2 (io), U3 LA27 (hiz), U5 LA30 (hiz), U31 D3 (io), U33 D0 (io), V4 LA29 (hiz), V32 D1 (io), V34 ~{CE}1 (in), W1 X1 (out), W3 ~{IACK} (out), W5 LSTAT3 (out), W31 ~{RDY}1 (in), W33 ~{LOCK} (out), W35 TMS (in), Y2 LSTAT2 (out), Y4 LSTAT1 (out), Y32 ~{RDY}0 (in), Y34 TCK (in)
part B pins: A1 GDDVDD (power), A3 VSSL (power), A5 IVSS (power), A7 DVDD (power), A9 CVSS (power), A11 DVSS (power), A13 DVDD (power), A15 DVSS (power), A17 DVDD (power), A19 CVSS (power), A21 DVSS (power), A23 DVDD (power), A25 DVSS (power), A27 CVSS (power), A29 DVDD (power), A31 IVSS (power), A33 VSSL (power), A35 GDDVDD (power), AB2 LADVDD (power), AC1 DVDD (power), AE1 CVSS (power), AG1 DVSS (power), AG35 IVSS (power), AJ1 DVDD (power), AJ35 DVSS (power), AL1 CVSS (power), AL35 CVSS (power), AM2 DVSS (power), AN1 VDDL (power), AN35 VDDL (power), AP2 LDDVDD (power), AP34 LADVDD (power), AR1 GADVDD (power), AR3 VSSL (power), AR5 IVSS (power), AR7 CVSS (power), AR9 DVSS (power), AR11 DVDD (power), AR13 CVSS (power), AR15 DVSS (power), AR17 DVDD (power), AR19 CVSS (power), AR21 DVSS (power), AR23 DVDD (power), AR25 CVSS (power), AR27 DVSS (power), AR29 DVDD (power), AR31 IVSS (power), AR33 VSSL (power), AR35 LDDVDD (power), B2 GADVDD (power), B34 LADVDD (power), C1 VDDL (power), C31 SUBS (power), C35 VDDL (power), E1 CVSS (power), E35 CVSS (power), G1 DVSS (power), G35 DVSS (power), J1 IVSS (power), J35 CVSS (power), L1 DVDD (power), L35 DVDD (power), N1 CVSS (power), N35 DVSS (power), R1 DVSS (power), R35 CVSS (power), U1 LDDVDD (power), U35 GADVDD (power), V2 GDDVDD (power)

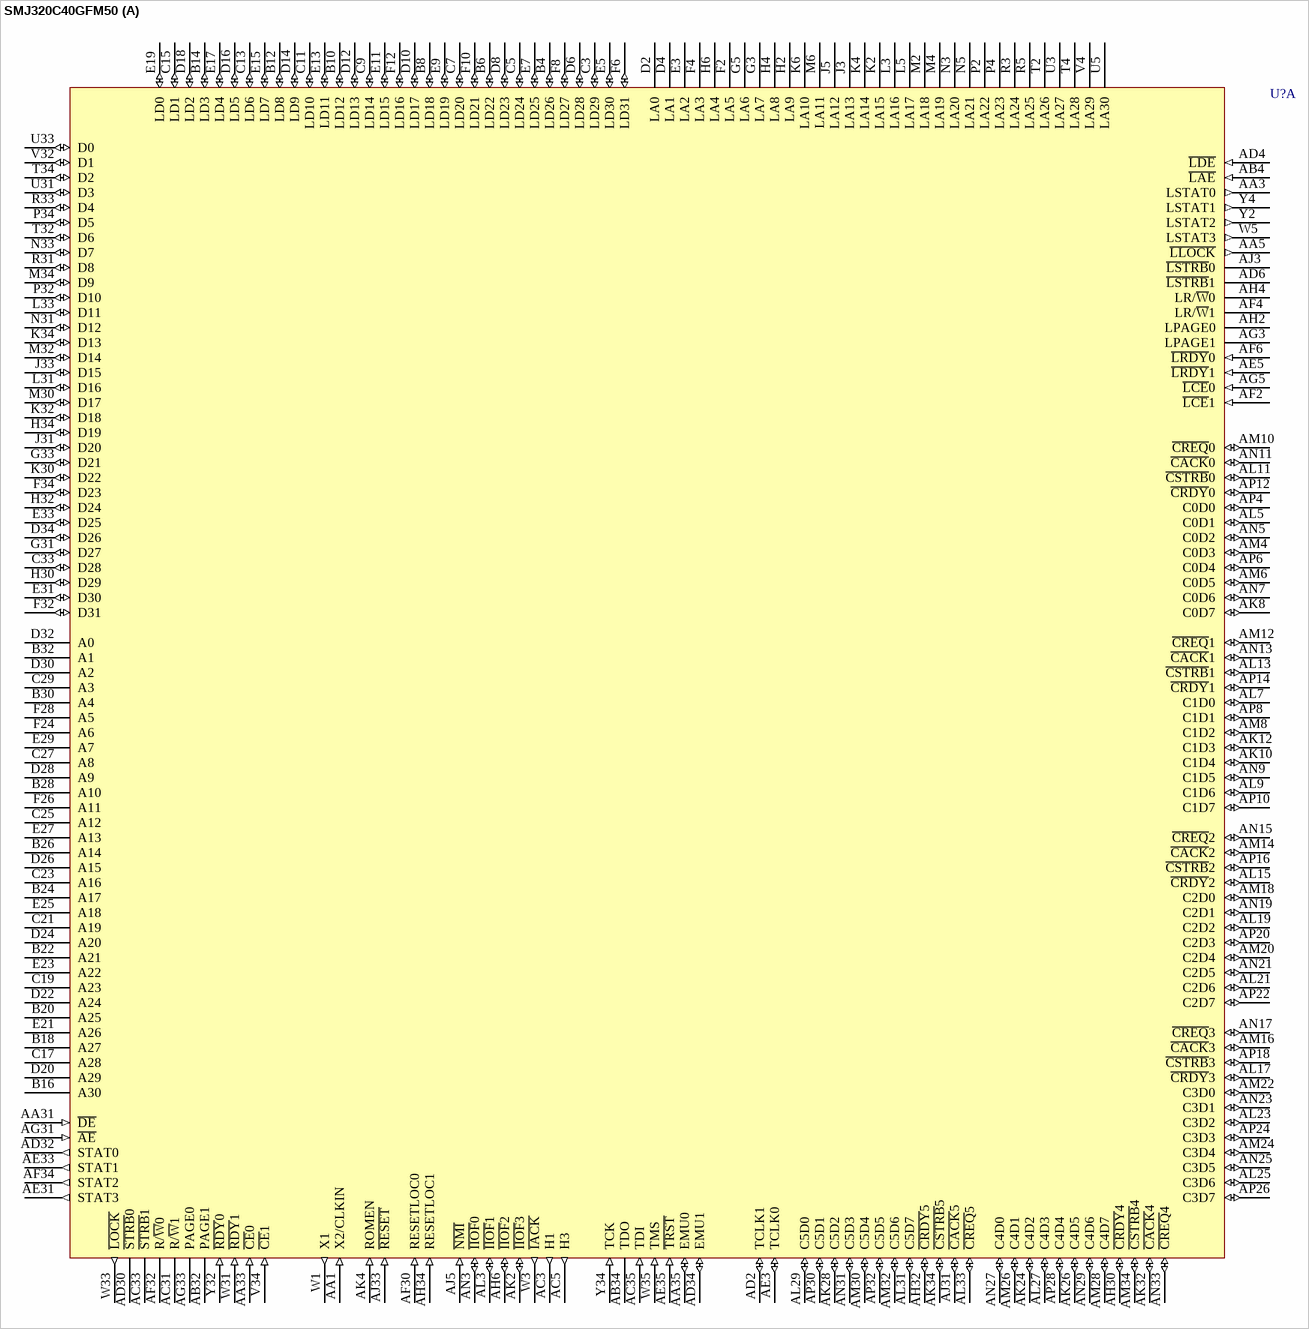
[diagram p69: symbol SMJ320C40GFM50]

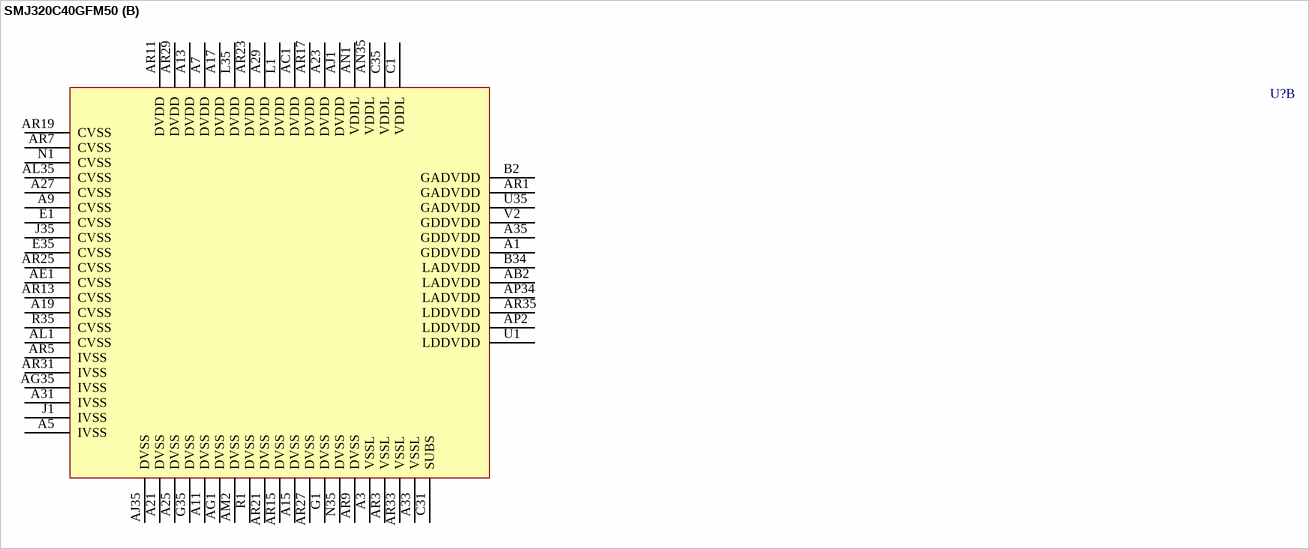
[diagram p70: symbol SMJ320C40GFM50]

## SMJ320C40GFM50
designator U?
Floating DSP; Published: 25-Jan-2001; LatestRevisionDate: 08-Jul-2005; LatestRevisionNote: Stylized 3D Model Added.; DatasheetVersion: Jun-2000; PackageVersion: Jun-1997; PackageReference: GF325; Publisher: Altium Limited; PackageDescription: 325-Pin Pin Grid Array 2.54 mm Pitch; ComponentLink1Description: Manufacturer Link; ComponentLink1URL: http://www.ti.com/; ComponentLink2Description: Datasheet; ComponentLink2URL: http://www-s.ti.com/sc/ds/sm320c40.pdf
footprint GF325 (PGA, 325-Leads, Body 47x47mm, Pitch 2.54mm)
3D model SMJ320C40-GF325 (325-Pin Pin Grid Array 2.54 mm Pitch)
part A pins: AA1 X2/CLKIN (in), AA3 LSTAT0 (out), AA5 ~{LLOCK} (out), AA31 ~{DE} (in), AA33 ~{CE}0 (in), AA35 EMU0 (io), AB4 ~{LAE} (in), AB32 PAGE1 (hiz), AB34 TDO (hiz), AC3 H1 (out), AC5 H3 (out), AC31 R/~{W}1 (hiz), AC33 ~{STRB}1 (hiz), AC35 TDI (in), AD2 TCLK1 (io), AD4 ~{LDE} (in), AD6 ~{LSTRB}1 (hiz), AD30 ~{STRB}0 (hiz), AD32 STAT0 (out), AD34 EMU1 (io), AE3 TCLK0 (io), AE5 ~{LRDY}1 (in), AE31 STAT3 (out), AE33 STAT1 (out), AE35 ~{TRST} (in), AF2 ~{LCE}1 (in), AF4 LR/~{W}1 (hiz), AF6 ~{LRDY}0 (in), AF30 RESETLOC0 (in), AF32 R/~{W}0 (hiz), AF34 STAT2 (out), AG3 LPAGE1 (hiz), AG5 ~{LCE}0 (in), AG31 ~{AE} (in), AG33 PAGE0 (hiz), AH2 LPAGE0 (hiz), AH4 LR/~{W}0 (hiz), AH6 ~{IIOF}2 (io), AH30 ~{CRDY}4 (io), AH32 ~{CRDY}5 (io), AH34 RESETLOC1 (in), AJ3 ~{LSTRB}0 (hiz), AJ5 ~{NMI} (in), AJ31 ~{CACK}5 (io), AJ33 ~{RESET} (in), AK2 ~{IIOF}3 (io), AK4 ROMEN (in), AK8 C0D7 (io), AK10 C1D4 (io), AK12 C1D3 (io), AK24 C4D2 (io), AK26 C4D5 (io), AK28 C5D2 (io), AK32 ~{CACK}4 (io), AK34 ~{CSTRB}5 (io), AL3 ~{IIOF}1 (io), AL5 C0D1 (io), AL7 C1D0 (io), AL9 C1D6 (io), AL11 ~{CSTRB}0 (io), AL13 ~{CSTRB}1 (io), AL15 ~{CRDY}2 (io), AL17 ~{CRDY}3 (io), AL19 C2D2 (io), AL21 C2D6 (io), AL23 C3D2 (io), AL25 C3D6 (io), AL27 C4D3 (io), AL29 C5D0 (io), AL31 C5D7 (io), AL33 ~{CREQ}5 (io), AM4 C0D3 (io), AM6 C0D5 (io), AM8 C1D2 (io), AM10 ~{CREQ}0 (io), AM12 ~{CREQ}1 (io), AM14 ~{CACK}2 (io), AM16 ~{CACK}3 (io), AM18 C2D0 (io), AM20 C2D4 (io), AM22 C3D0 (io), AM24 C3D4 (io), AM26 C4D1 (io), AM28 C4D7 (io), AM30 C5D4 (io), AM32 C5D6 (io), AM34 ~{CSTRB}4 (io), AN3 ~{IIOF}0 (io), AN5 C0D2 (io), AN7 C0D6 (io), AN9 C1D5 (io), AN11 ~{CACK}0 (io), AN13 ~{CACK}1 (io), AN15 ~{CREQ}2 (io), AN17 ~{CREQ}3 (io), AN19 C2D1 (io), AN21 C2D5 (io), AN23 C3D1 (io), AN25 C3D5 (io), AN27 C4D0 (io), AN29 C4D6 (io), AN31 C5D3 (io), AN33 ~{CREQ}4 (io), AP4 C0D0 (io), AP6 C0D4 (io), AP8 C1D1 (io), AP10 C1D7 (io), AP12 ~{CRDY}0 (io), AP14 ~{CRDY}1 (io), AP16 ~{CSTRB}2 (io), AP18 ~{CSTRB}3 (io), AP20 C2D3 (io), AP22 C2D7 (io), AP24 C3D3 (io), AP26 C3D7 (io), AP28 C4D4 (io), AP30 C5D1 (io), AP32 C5D5 (io), B4 LD26 (io), B6 LD22 (io), B8 LD18 (io), B10 LD12 (io), B12 LD8 (io), B14 LD3 (io), B16 A30 (hiz), B18 A27 (hiz), B20 A25 (hiz), B22 A21 (hiz), B24 A17 (hiz), B26 A14 (hiz), B28 A10 (hiz), B30 A4 (hiz), B32 A1 (hiz), C3 LD29 (io), C5 LD24 (io), C7 LD20 (io), C9 LD14 (io), C11 LD10 (io), C13 LD6 (io), C15 LD1 (io), C17 A28 (hiz), C19 A23 (hiz), C21 A19 (hiz), C23 A16 (hiz), C25 A12 (hiz), C27 A8 (hiz), C29 A3 (hiz), C33 D28 (io), D2 LA0 (hiz), D4 LA1 (hiz), D6 LD28 (io), D8 LD23 (io), D10 LD17 (io), D12 LD13 (io), D14 LD9 (io), D16 LD5 (io), D18 LD2 (io), D20 A29 (hiz), D22 A24 (hiz), D24 A20 (hiz), D26 A15 (hiz), D28 A9 (hiz), D30 A2 (hiz), D32 A0 (hiz), D34 D26 (io), E3 LA2 (hiz), E5 LD30 (io), E7 LD25 (io), E9 LD19 (io), E11 LD15 (io), E13 LD11 (io), E15 LD7 (io), E17 LD4 (io), E19 LD0 (io), E21 A26 (hiz), E23 A22 (hiz), E25 A18 (hiz), E27 A13 (hiz), E29 A7 (hiz), E31 D30 (io), E33 D25 (io), F2 LA5 (hiz), F4 LA3 (hiz), F6 LD31 (io), F8 LD27 (io), F10 LD21 (io), F12 LD16 (io), F24 A6 (hiz), F26 A11 (hiz), F28 A5 (hiz), F32 D31 (io), F34 D23 (io), G3 LA7 (hiz), G5 LA6 (hiz), G31 D27 (io), G33 D21 (io), H2 LA9 (hiz), H4 LA8 (hiz), H6 LA4 (hiz), H30 D29 (io), H32 D24 (io), H34 D19 (io), J3 LA13 (hiz), J5 LA12 (hiz), J31 D20 (io), J33 D15 (io), K2 LA15 (hiz), K4 LA14 (hiz), K6 LA10 (hiz), K30 D22 (io), K32 D18 (io), K34 D13 (io), L3 LA16 (hiz), L5 LA17 (hiz), L31 D16 (io), L33 D11 (io), M2 LA18 (hiz), M4 LA19 (hiz), M6 LA11 (hiz), M30 D17 (io), M32 D14 (io), M34 D9 (io), N3 LA20 (hiz), N5 LA21 (hiz), N31 D12 (io), N33 D7 (io), P2 LA22 (hiz), P4 LA23 (hiz), P32 D10 (io), P34 D5 (io), R3 LA24 (hiz), R5 LA25 (hiz), R31 D8 (io), R33 D4 (io), T2 LA26 (hiz), T4 LA28 (hiz), T32 D6 (io), T34 D2 (io), U3 LA27 (hiz), U5 LA30 (hiz), U31 D3 (io), U33 D0 (io), V4 LA29 (hiz), V32 D1 (io), V34 ~{CE}1 (in), W1 X1 (out), W3 ~{IACK} (out), W5 LSTAT3 (out), W31 ~{RDY}1 (in), W33 ~{LOCK} (out), W35 TMS (in), Y2 LSTAT2 (out), Y4 LSTAT1 (out), Y32 ~{RDY}0 (in), Y34 TCK (in)
part B pins: A1 GDDVDD (power), A3 VSSL (power), A5 IVSS (power), A7 DVDD (power), A9 CVSS (power), A11 DVSS (power), A13 DVDD (power), A15 DVSS (power), A17 DVDD (power), A19 CVSS (power), A21 DVSS (power), A23 DVDD (power), A25 DVSS (power), A27 CVSS (power), A29 DVDD (power), A31 IVSS (power), A33 VSSL (power), A35 GDDVDD (power), AB2 LADVDD (power), AC1 DVDD (power), AE1 CVSS (power), AG1 DVSS (power), AG35 IVSS (power), AJ1 DVDD (power), AJ35 DVSS (power), AL1 CVSS (power), AL35 CVSS (power), AM2 DVSS (power), AN1 VDDL (power), AN35 VDDL (power), AP2 LDDVDD (power), AP34 LADVDD (power), AR1 GADVDD (power), AR3 VSSL (power), AR5 IVSS (power), AR7 CVSS (power), AR9 DVSS (power), AR11 DVDD (power), AR13 CVSS (power), AR15 DVSS (power), AR17 DVDD (power), AR19 CVSS (power), AR21 DVSS (power), AR23 DVDD (power), AR25 CVSS (power), AR27 DVSS (power), AR29 DVDD (power), AR31 IVSS (power), AR33 VSSL (power), AR35 LDDVDD (power), B2 GADVDD (power), B34 LADVDD (power), C1 VDDL (power), C31 SUBS (power), C35 VDDL (power), E1 CVSS (power), E35 CVSS (power), G1 DVSS (power), G35 DVSS (power), J1 IVSS (power), J35 CVSS (power), L1 DVDD (power), L35 DVDD (power), N1 CVSS (power), N35 DVSS (power), R1 DVSS (power), R35 CVSS (power), U1 LDDVDD (power), U35 GADVDD (power), V2 GDDVDD (power)

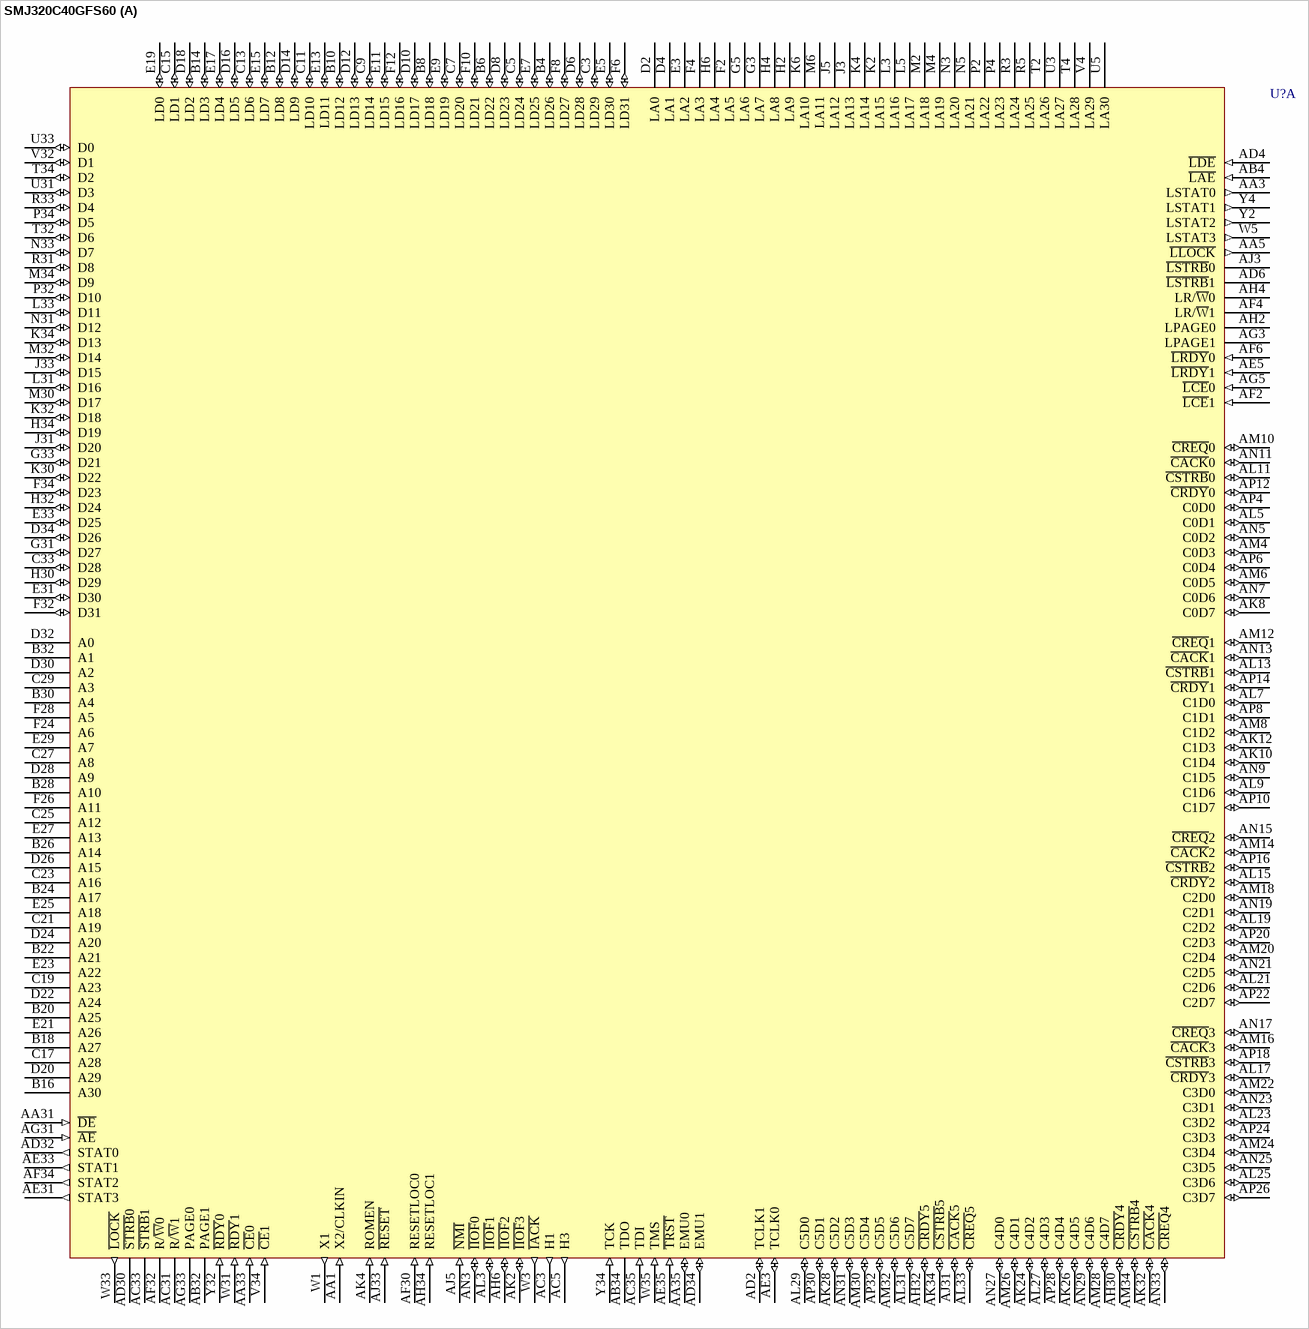
[diagram p71: symbol SMJ320C40GFS60]

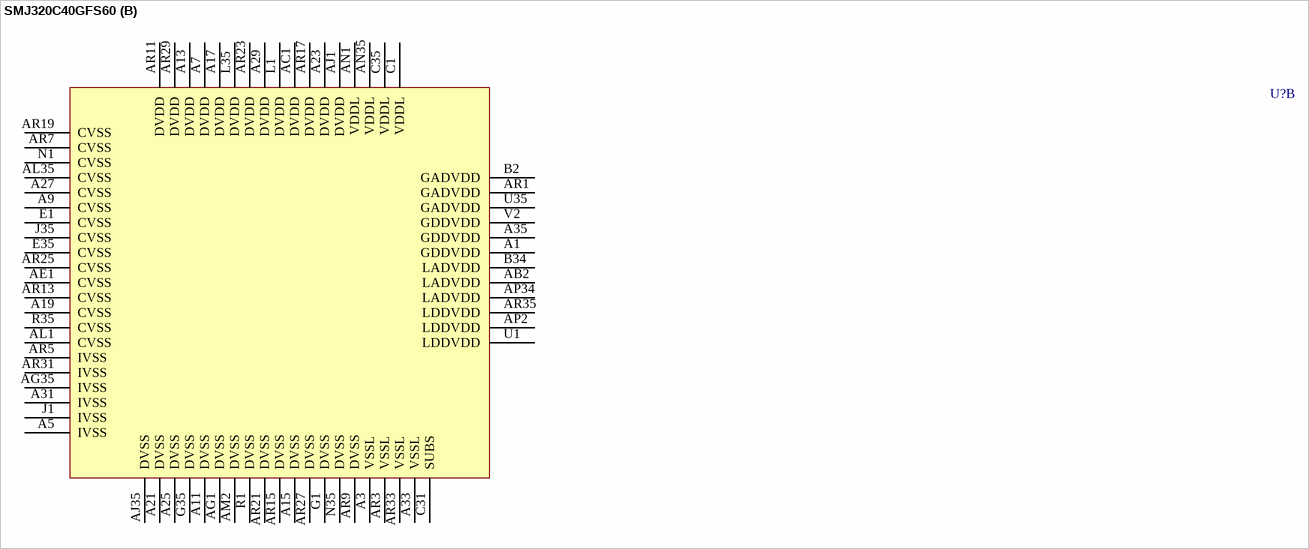
[diagram p72: symbol SMJ320C40GFS60]